# Altium integrated library Lattice CPLD ispMACH.IntLib: 663 symbols (part 23 of 48)
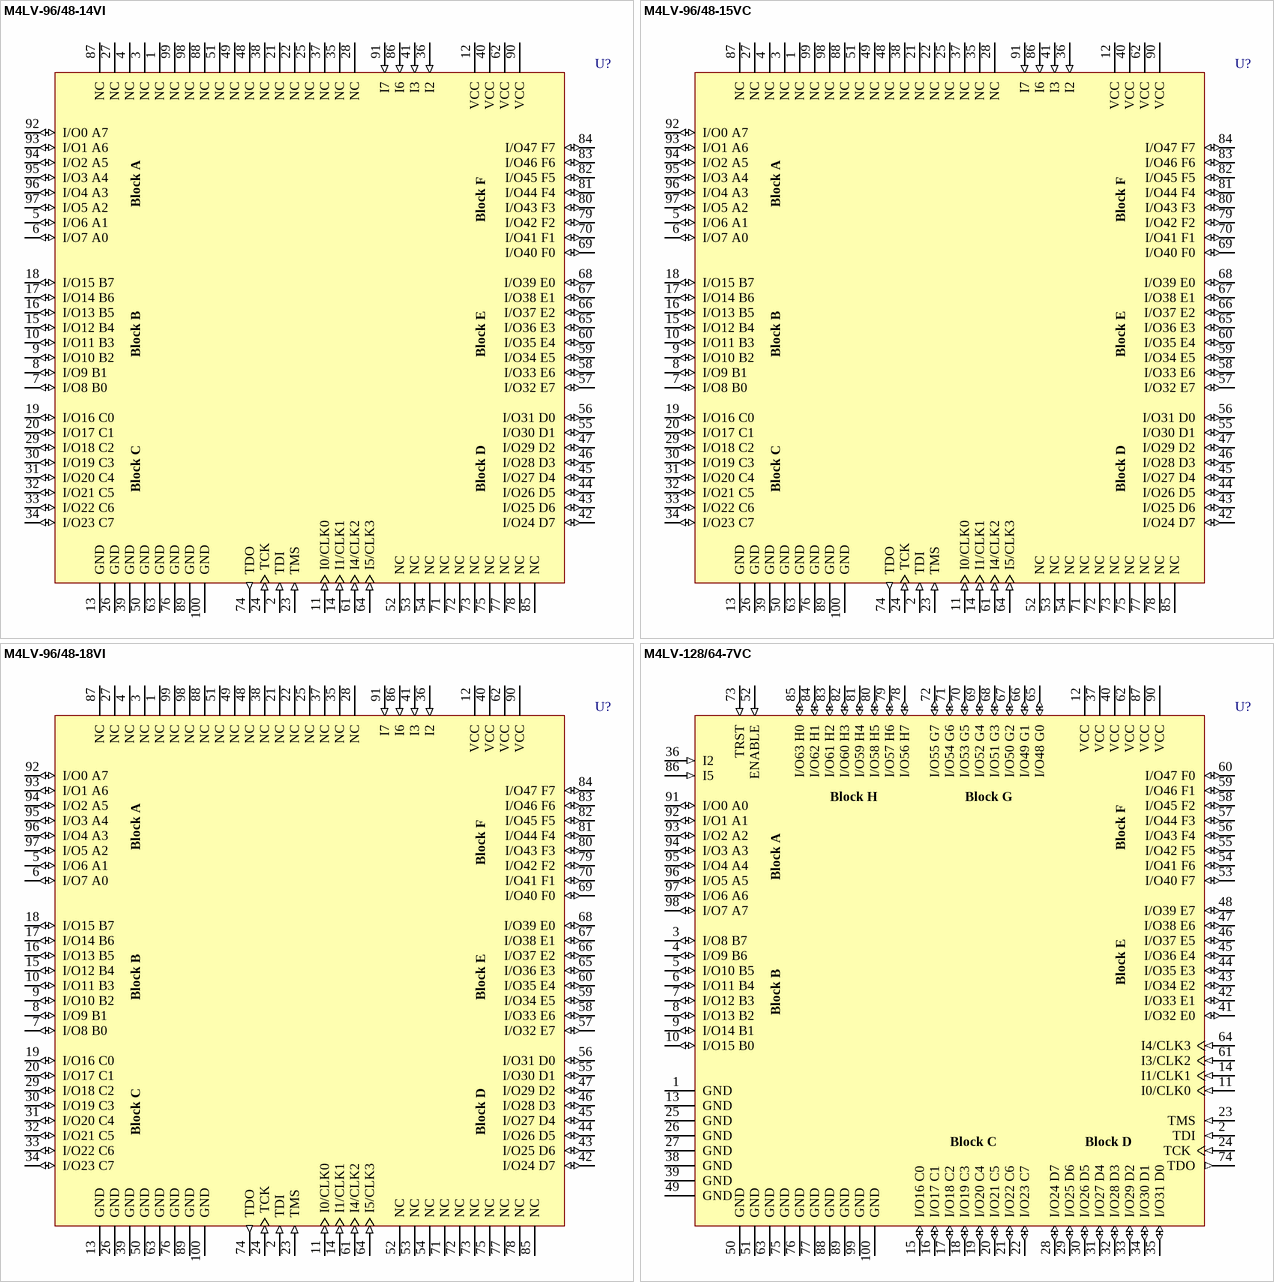
[diagram p328: symbols M4LV-96/48-14VI to M4LV-128/64-7VC]

## M4LV-96/48-14VI
designator U?
High-Performance EE CMOS In-System Programmable Logic; Published: 23-Sep-2002; LatestRevisionDate: 13-Apr-2006; LatestRevisionNote: IPC-7351 Footprint Added.; DatasheetVersion: Mar-2000; PackageVersion: pkg_32, Aug-2005; PackageReference: TQFP100; Publisher: Altium Limited; PackageDescription: 100-Pin Thin Quad Flat Pack (TQFP100); Code_JEDEC: MS-026-BED; ComponentLink1Description: Manufacturer Link; ComponentLink1URL: http://www.latticesemi.com/products/mature/index.cfm; ComponentLink2Description: Datasheet; ComponentLink2URL: http://www.latticesemi.com/lit/docs/datasheets/cpld/mach4.pdf
footprint TQFP100_N (Thin QFP, 100-Leads, Body 14x14mm, Pitch 0.5mm, IPC Medium Density)
footprint TQFP100_L (Thin QFP, 100-Leads, Body 14x14mm, Pitch 0.5mm, IPC High Density)
footprint TQFP100_M (Thin QFP, 100-Leads, Body 14x14mm, Pitch 0.5mm, IPC Low Density)
3D model M4LV-TQFP100 (100-Pin Thin Quad Flat Pack (TQFP100))
pins: 1 NC, 2 TDI (in), 3 NC, 4 NC, 5 I/O6 A1 (io), 6 I/O7 A0 (io), 7 I/O8 B0 (io), 8 I/O9 B1 (io), 9 I/O10 B2 (io), 10 I/O11 B3 (io), 11 I0/CLK0 (in), 12 VCC (power), 13 GND (power), 14 I1/CLK1 (in), 15 I/O12 B4 (io), 16 I/O13 B5 (io), 17 I/O14 B6 (io), 18 I/O15 B7 (io), 19 I/O16 C0 (io), 20 I/O17 C1 (io), 21 NC, 22 NC, 23 TMS (in), 24 TCK (in), 25 NC, 26 GND (power), 27 NC, 28 NC, 29 I/O18 C2 (io), 30 I/O19 C3 (io), 31 I/O20 C4 (io), 32 I/O21 C5 (io), 33 I/O22 C6 (io), 34 I/O23 C7 (io), 35 NC, 36 I2 (in), 37 NC, 38 NC, 39 GND (power), 40 VCC (power), 41 I3 (in), 42 I/O24 D7 (io), 43 I/O25 D6 (io), 44 I/O26 D5 (io), 45 I/O27 D4 (io), 46 I/O28 D3 (io), 47 I/O29 D2 (io), 48 NC, 49 NC, 50 GND (power), 51 NC, 52 NC, 53 NC, 54 NC, 55 I/O30 D1 (io), 56 I/O31 D0 (io), 57 I/O32 E7 (io), 58 I/O33 E6 (io), 59 I/O34 E5 (io), 60 I/O35 E4 (io), 61 I4/CLK2 (in), 62 VCC (power), 63 GND (power), 64 I5/CLK3 (in), 65 I/O36 E3 (io), 66 I/O37 E2 (io), 67 I/O38 E1 (io), 68 I/O39 E0 (io), 69 I/O40 F0 (io), 70 I/O41 F1 (io), 71 NC, 72 NC, 73 NC, 74 TDO (out), 75 NC, 76 GND (power), 77 NC, 78 NC, 79 I/O42 F2 (io), 80 I/O43 F3 (io), 81 I/O44 F4 (io), 82 I/O45 F5 (io), 83 I/O46 F6 (io), 84 I/O47 F7 (io), 85 NC, 86 I6 (in), 87 NC, 88 NC, 89 GND (power), 90 VCC (power), 91 I7 (in), 92 I/O0 A7 (io), 93 I/O1 A6 (io), 94 I/O2 A5 (io), 95 I/O3 A4 (io), 96 I/O4 A3 (io), 97 I/O5 A2 (io), 98 NC, 99 NC, 100 GND (power)
text: Block A; Block F; Block B; Block E; Block C; Block D

## M4LV-96/48-15VC
designator U?
High-Performance EE CMOS In-System Programmable Logic; Published: 23-Sep-2002; LatestRevisionDate: 13-Apr-2006; LatestRevisionNote: IPC-7351 Footprint Added.; DatasheetVersion: Mar-2000; PackageVersion: pkg_32, Aug-2005; PackageReference: TQFP100; Publisher: Altium Limited; PackageDescription: 100-Pin Thin Quad Flat Pack (TQFP100); Code_JEDEC: MS-026-BED; ComponentLink1Description: Manufacturer Link; ComponentLink1URL: http://www.latticesemi.com/products/mature/index.cfm; ComponentLink2Description: Datasheet; ComponentLink2URL: http://www.latticesemi.com/lit/docs/datasheets/cpld/mach4.pdf
footprint TQFP100_N (Thin QFP, 100-Leads, Body 14x14mm, Pitch 0.5mm, IPC Medium Density)
footprint TQFP100_L (Thin QFP, 100-Leads, Body 14x14mm, Pitch 0.5mm, IPC High Density)
footprint TQFP100_M (Thin QFP, 100-Leads, Body 14x14mm, Pitch 0.5mm, IPC Low Density)
3D model M4LV-TQFP100 (100-Pin Thin Quad Flat Pack (TQFP100))
pins: 1 NC, 2 TDI (in), 3 NC, 4 NC, 5 I/O6 A1 (io), 6 I/O7 A0 (io), 7 I/O8 B0 (io), 8 I/O9 B1 (io), 9 I/O10 B2 (io), 10 I/O11 B3 (io), 11 I0/CLK0 (in), 12 VCC (power), 13 GND (power), 14 I1/CLK1 (in), 15 I/O12 B4 (io), 16 I/O13 B5 (io), 17 I/O14 B6 (io), 18 I/O15 B7 (io), 19 I/O16 C0 (io), 20 I/O17 C1 (io), 21 NC, 22 NC, 23 TMS (in), 24 TCK (in), 25 NC, 26 GND (power), 27 NC, 28 NC, 29 I/O18 C2 (io), 30 I/O19 C3 (io), 31 I/O20 C4 (io), 32 I/O21 C5 (io), 33 I/O22 C6 (io), 34 I/O23 C7 (io), 35 NC, 36 I2 (in), 37 NC, 38 NC, 39 GND (power), 40 VCC (power), 41 I3 (in), 42 I/O24 D7 (io), 43 I/O25 D6 (io), 44 I/O26 D5 (io), 45 I/O27 D4 (io), 46 I/O28 D3 (io), 47 I/O29 D2 (io), 48 NC, 49 NC, 50 GND (power), 51 NC, 52 NC, 53 NC, 54 NC, 55 I/O30 D1 (io), 56 I/O31 D0 (io), 57 I/O32 E7 (io), 58 I/O33 E6 (io), 59 I/O34 E5 (io), 60 I/O35 E4 (io), 61 I4/CLK2 (in), 62 VCC (power), 63 GND (power), 64 I5/CLK3 (in), 65 I/O36 E3 (io), 66 I/O37 E2 (io), 67 I/O38 E1 (io), 68 I/O39 E0 (io), 69 I/O40 F0 (io), 70 I/O41 F1 (io), 71 NC, 72 NC, 73 NC, 74 TDO (out), 75 NC, 76 GND (power), 77 NC, 78 NC, 79 I/O42 F2 (io), 80 I/O43 F3 (io), 81 I/O44 F4 (io), 82 I/O45 F5 (io), 83 I/O46 F6 (io), 84 I/O47 F7 (io), 85 NC, 86 I6 (in), 87 NC, 88 NC, 89 GND (power), 90 VCC (power), 91 I7 (in), 92 I/O0 A7 (io), 93 I/O1 A6 (io), 94 I/O2 A5 (io), 95 I/O3 A4 (io), 96 I/O4 A3 (io), 97 I/O5 A2 (io), 98 NC, 99 NC, 100 GND (power)
text: Block A; Block F; Block B; Block E; Block C; Block D

## M4LV-96/48-18VI
designator U?
High-Performance EE CMOS In-System Programmable Logic; Published: 23-Sep-2002; LatestRevisionDate: 13-Apr-2006; LatestRevisionNote: IPC-7351 Footprint Added.; DatasheetVersion: Mar-2000; PackageVersion: pkg_32, Aug-2005; PackageReference: TQFP100; Publisher: Altium Limited; PackageDescription: 100-Pin Thin Quad Flat Pack (TQFP100); Code_JEDEC: MS-026-BED; ComponentLink1Description: Manufacturer Link; ComponentLink1URL: http://www.latticesemi.com/products/mature/index.cfm; ComponentLink2Description: Datasheet; ComponentLink2URL: http://www.latticesemi.com/lit/docs/datasheets/cpld/mach4.pdf
footprint TQFP100_N (Thin QFP, 100-Leads, Body 14x14mm, Pitch 0.5mm, IPC Medium Density)
footprint TQFP100_L (Thin QFP, 100-Leads, Body 14x14mm, Pitch 0.5mm, IPC High Density)
footprint TQFP100_M (Thin QFP, 100-Leads, Body 14x14mm, Pitch 0.5mm, IPC Low Density)
3D model M4LV-TQFP100 (100-Pin Thin Quad Flat Pack (TQFP100))
pins: 1 NC, 2 TDI (in), 3 NC, 4 NC, 5 I/O6 A1 (io), 6 I/O7 A0 (io), 7 I/O8 B0 (io), 8 I/O9 B1 (io), 9 I/O10 B2 (io), 10 I/O11 B3 (io), 11 I0/CLK0 (in), 12 VCC (power), 13 GND (power), 14 I1/CLK1 (in), 15 I/O12 B4 (io), 16 I/O13 B5 (io), 17 I/O14 B6 (io), 18 I/O15 B7 (io), 19 I/O16 C0 (io), 20 I/O17 C1 (io), 21 NC, 22 NC, 23 TMS (in), 24 TCK (in), 25 NC, 26 GND (power), 27 NC, 28 NC, 29 I/O18 C2 (io), 30 I/O19 C3 (io), 31 I/O20 C4 (io), 32 I/O21 C5 (io), 33 I/O22 C6 (io), 34 I/O23 C7 (io), 35 NC, 36 I2 (in), 37 NC, 38 NC, 39 GND (power), 40 VCC (power), 41 I3 (in), 42 I/O24 D7 (io), 43 I/O25 D6 (io), 44 I/O26 D5 (io), 45 I/O27 D4 (io), 46 I/O28 D3 (io), 47 I/O29 D2 (io), 48 NC, 49 NC, 50 GND (power), 51 NC, 52 NC, 53 NC, 54 NC, 55 I/O30 D1 (io), 56 I/O31 D0 (io), 57 I/O32 E7 (io), 58 I/O33 E6 (io), 59 I/O34 E5 (io), 60 I/O35 E4 (io), 61 I4/CLK2 (in), 62 VCC (power), 63 GND (power), 64 I5/CLK3 (in), 65 I/O36 E3 (io), 66 I/O37 E2 (io), 67 I/O38 E1 (io), 68 I/O39 E0 (io), 69 I/O40 F0 (io), 70 I/O41 F1 (io), 71 NC, 72 NC, 73 NC, 74 TDO (out), 75 NC, 76 GND (power), 77 NC, 78 NC, 79 I/O42 F2 (io), 80 I/O43 F3 (io), 81 I/O44 F4 (io), 82 I/O45 F5 (io), 83 I/O46 F6 (io), 84 I/O47 F7 (io), 85 NC, 86 I6 (in), 87 NC, 88 NC, 89 GND (power), 90 VCC (power), 91 I7 (in), 92 I/O0 A7 (io), 93 I/O1 A6 (io), 94 I/O2 A5 (io), 95 I/O3 A4 (io), 96 I/O4 A3 (io), 97 I/O5 A2 (io), 98 NC, 99 NC, 100 GND (power)
text: Block A; Block F; Block B; Block E; Block C; Block D

## M4LV-128/64-7VC
designator U?
High-Performance EE CMOS In-System Programmable Logic; Published: 23-Sep-2002; LatestRevisionDate: 13-Apr-2006; LatestRevisionNote: IPC-7351 Footprint Added.; DatasheetVersion: Mar-2000; PackageVersion: pkg_32, Aug-2005; PackageReference: TQFP100; Publisher: Altium Limited; PackageDescription: 100-Pin Thin Quad Flat Pack (TQFP100); Code_JEDEC: MS-026-BED; ComponentLink1Description: Manufacturer Link; ComponentLink1URL: http://www.latticesemi.com/products/mature/index.cfm; ComponentLink2Description: Datasheet; ComponentLink2URL: http://www.latticesemi.com/lit/docs/datasheets/cpld/mach4.pdf
footprint TQFP100_N (Thin QFP, 100-Leads, Body 14x14mm, Pitch 0.5mm, IPC Medium Density)
footprint TQFP100_L (Thin QFP, 100-Leads, Body 14x14mm, Pitch 0.5mm, IPC High Density)
footprint TQFP100_M (Thin QFP, 100-Leads, Body 14x14mm, Pitch 0.5mm, IPC Low Density)
3D model M4LV-TQFP100 (100-Pin Thin Quad Flat Pack (TQFP100))
pins: 1 GND (power), 2 TDI (in), 3 I/O8 B7 (io), 4 I/O9 B6 (io), 5 I/O10 B5 (io), 6 I/O11 B4 (io), 7 I/O12 B3 (io), 8 I/O13 B2 (io), 9 I/O14 B1 (io), 10 I/O15 B0 (io), 11 I0/CLK0 (in), 12 VCC (power), 13 GND (power), 14 I1/CLK1 (in), 15 I/O16 C0 (io), 16 I/O17 C1 (io), 17 I/O18 C2 (io), 18 I/O19 C3 (io), 19 I/O20 C4 (io), 20 I/O21 C5 (io), 21 I/O22 C6 (io), 22 I/O23 C7 (io), 23 TMS (in), 24 TCK (in), 25 GND (power), 26 GND (power), 27 GND (power), 28 I/O24 D7 (io), 29 I/O25 D6 (io), 30 I/O26 D5 (io), 31 I/O27 D4 (io), 32 I/O28 D3 (io), 33 I/O29 D2 (io), 34 I/O30 D1 (io), 35 I/O31 D0 (io), 36 I2 (in), 37 VCC (power), 38 GND (power), 39 GND (power), 40 VCC (power), 41 I/O32 E0 (io), 42 I/O33 E1 (io), 43 I/O34 E2 (io), 44 I/O35 E3 (io), 45 I/O36 E4 (io), 46 I/O37 E5 (io), 47 I/O38 E6 (io), 48 I/O39 E7 (io), 49 GND (power), 50 GND (power), 51 GND (power), 52 ENABLE (in), 53 I/O40 F7 (io), 54 I/O41 F6 (io), 55 I/O42 F5 (io), 56 I/O43 F4 (io), 57 I/O44 F3 (io), 58 I/O45 F2 (io), 59 I/O46 F1 (io), 60 I/O47 F0 (io), 61 I3/CLK2 (in), 62 VCC (power), 63 GND (power), 64 I4/CLK3 (in), 65 I/O48 G0 (io), 66 I/O49 G1 (io), 67 I/O50 G2 (io), 68 I/O51 G3 (io), 69 I/O52 G4 (io), 70 I/O53 G5 (io), 71 I/O54 G6 (io), 72 I/O55 G7 (io), 73 TRST (in), 74 TDO (out), 75 GND (power), 76 GND (power), 77 GND (power), 78 I/O56 H7 (io), 79 I/O57 H6 (io), 80 I/O58 H5 (io), 81 I/O59 H4 (io), 82 I/O60 H3 (io), 83 I/O61 H2 (io), 84 I/O62 H1 (io), 85 I/O63 H0 (io), 86 I5 (in), 87 VCC (power), 88 GND (power), 89 GND (power), 90 VCC (power), 91 I/O0 A0 (io), 92 I/O1 A1 (io), 93 I/O2 A2 (io), 94 I/O3 A3 (io), 95 I/O4 A4 (io), 96 I/O5 A5 (io), 97 I/O6 A6 (io), 98 I/O7 A7 (io), 99 GND (power), 100 GND (power)
text: Block H; Block G; Block F; Block A; Block E; Block B; Block C; Block D

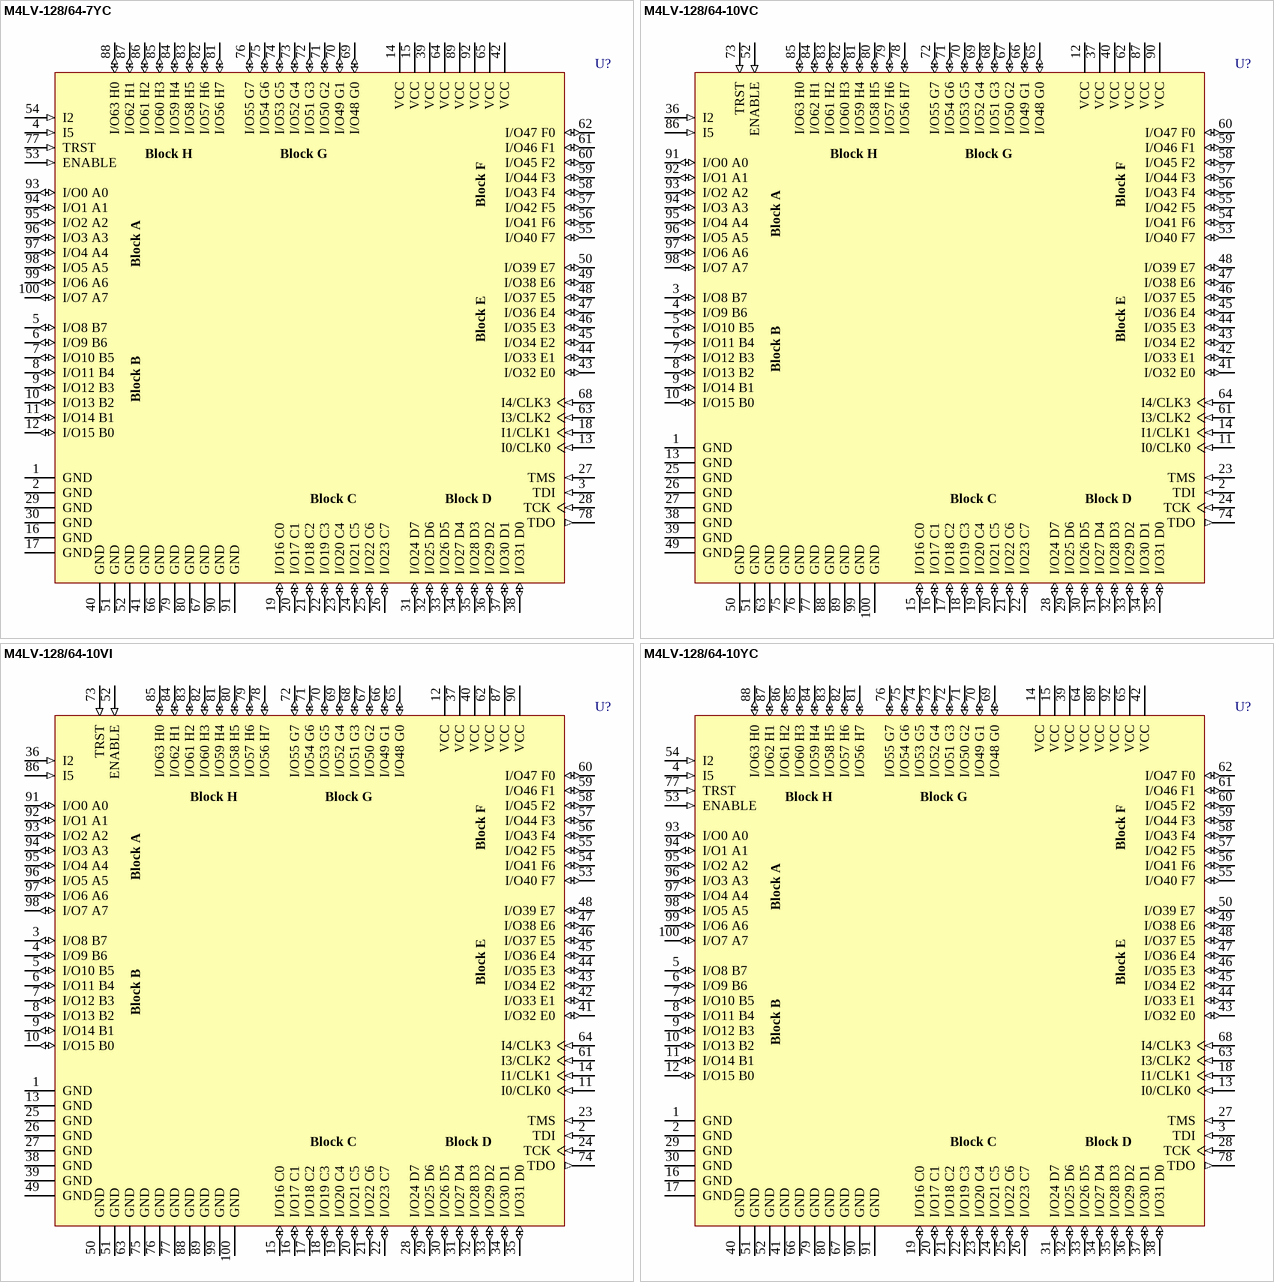
[diagram p137: symbols M4LV-128/64-7YC to M4LV-128/64-10YC]

## M4LV-128/64-7YC
designator U?
High-Performance EE CMOS In-System Programmable Logic; Published: 23-Sep-2002; LatestRevisionDate: 13-Apr-2006; LatestRevisionNote: IPC-7351 Footprint Added.; DatasheetVersion: Mar-2000; PackageVersion: pkg_32, Aug-2005; PackageReference: PQFP100; Publisher: Altium Limited; PackageDescription: 100-Pin Quad Flat Pack Rectangular 0.65 mm Pitch; Code_IPC: QFP65P1720X2320-100; ComponentLink1Description: Manufacturer Link; ComponentLink1URL: http://www.latticesemi.com/products/mature/index.cfm; ComponentLink2Description: Datasheet; ComponentLink2URL: http://www.latticesemi.com/lit/docs/datasheets/cpld/mach4.pdf
footprint PQFP100_N (QFP, 100-Leads, Body 20x14mm, Pitch 0.65mm, IPC Medium Density)
footprint PQFP100_L (QFP, 100-Leads, Body 20x14mm, Pitch 0.65mm, IPC High Density)
footprint PQFP100_M (QFP, 100-Leads, Body 20x14mm, Pitch 0.65mm, IPC Low Density)
3D model PQFP-100 (100-Pin Quad Flat Pack Rectangular 0.65 mm Pitch)
pins: 1 GND (power), 2 GND (power), 3 TDI (in), 4 I5 (in), 5 I/O8 B7 (io), 6 I/O9 B6 (io), 7 I/O10 B5 (io), 8 I/O11 B4 (io), 9 I/O12 B3 (io), 10 I/O13 B2 (io), 11 I/O14 B1 (io), 12 I/O15 B0 (io), 13 I0/CLK0 (in), 14 VCC (power), 15 VCC (power), 16 GND (power), 17 GND (power), 18 I1/CLK1 (in), 19 I/O16 C0 (io), 20 I/O17 C1 (io), 21 I/O18 C2 (io), 22 I/O19 C3 (io), 23 I/O20 C4 (io), 24 I/O21 C5 (io), 25 I/O22 C6 (io), 26 I/O23 C7 (io), 27 TMS (in), 28 TCK (in), 29 GND (power), 30 GND (power), 31 I/O24 D7 (io), 32 I/O25 D6 (io), 33 I/O26 D5 (io), 34 I/O27 D4 (io), 35 I/O28 D3 (io), 36 I/O29 D2 (io), 37 I/O30 D1 (io), 38 I/O31 D0 (io), 39 VCC (power), 40 GND (power), 41 GND (power), 42 VCC (power), 43 I/O32 E0 (io), 44 I/O33 E1 (io), 45 I/O34 E2 (io), 46 I/O35 E3 (io), 47 I/O36 E4 (io), 48 I/O37 E5 (io), 49 I/O38 E6 (io), 50 I/O39 E7 (io), 51 GND (power), 52 GND (power), 53 ENABLE (in), 54 I2 (in), 55 I/O40 F7 (io), 56 I/O41 F6 (io), 57 I/O42 F5 (io), 58 I/O43 F4 (io), 59 I/O44 F3 (io), 60 I/O45 F2 (io), 61 I/O46 F1 (io), 62 I/O47 F0 (io), 63 I3/CLK2 (in), 64 VCC (power), 65 VCC (power), 66 GND (power), 67 GND (power), 68 I4/CLK3 (in), 69 I/O48 G0 (io), 70 I/O49 G1 (io), 71 I/O50 G2 (io), 72 I/O51 G3 (io), 73 I/O52 G4 (io), 74 I/O53 G5 (io), 75 I/O54 G6 (io), 76 I/O55 G7 (io), 77 TRST (in), 78 TDO (out), 79 GND (power), 80 GND (power), 81 I/O56 H7 (io), 82 I/O57 H6 (io), 83 I/O58 H5 (io), 84 I/O59 H4 (io), 85 I/O60 H3 (io), 86 I/O61 H2 (io), 87 I/O62 H1 (io), 88 I/O63 H0 (io), 89 VCC (power), 90 GND (power), 91 GND (power), 92 VCC (power), 93 I/O0 A0 (io), 94 I/O1 A1 (io), 95 I/O2 A2 (io), 96 I/O3 A3 (io), 97 I/O4 A4 (io), 98 I/O5 A5 (io), 99 I/O6 A6 (io), 100 I/O7 A7 (io)
text: Block H; Block G; Block F; Block A; Block E; Block B; Block C; Block D

## M4LV-128/64-10VC
designator U?
High-Performance EE CMOS In-System Programmable Logic; Published: 23-Sep-2002; LatestRevisionDate: 13-Apr-2006; LatestRevisionNote: IPC-7351 Footprint Added.; DatasheetVersion: Mar-2000; PackageVersion: pkg_32, Aug-2005; PackageReference: TQFP100; Publisher: Altium Limited; PackageDescription: 100-Pin Thin Quad Flat Pack (TQFP100); Code_JEDEC: MS-026-BED; ComponentLink1Description: Manufacturer Link; ComponentLink1URL: http://www.latticesemi.com/products/mature/index.cfm; ComponentLink2Description: Datasheet; ComponentLink2URL: http://www.latticesemi.com/lit/docs/datasheets/cpld/mach4.pdf
footprint TQFP100_N (Thin QFP, 100-Leads, Body 14x14mm, Pitch 0.5mm, IPC Medium Density)
footprint TQFP100_L (Thin QFP, 100-Leads, Body 14x14mm, Pitch 0.5mm, IPC High Density)
footprint TQFP100_M (Thin QFP, 100-Leads, Body 14x14mm, Pitch 0.5mm, IPC Low Density)
3D model M4LV-TQFP100 (100-Pin Thin Quad Flat Pack (TQFP100))
pins: 1 GND (power), 2 TDI (in), 3 I/O8 B7 (io), 4 I/O9 B6 (io), 5 I/O10 B5 (io), 6 I/O11 B4 (io), 7 I/O12 B3 (io), 8 I/O13 B2 (io), 9 I/O14 B1 (io), 10 I/O15 B0 (io), 11 I0/CLK0 (in), 12 VCC (power), 13 GND (power), 14 I1/CLK1 (in), 15 I/O16 C0 (io), 16 I/O17 C1 (io), 17 I/O18 C2 (io), 18 I/O19 C3 (io), 19 I/O20 C4 (io), 20 I/O21 C5 (io), 21 I/O22 C6 (io), 22 I/O23 C7 (io), 23 TMS (in), 24 TCK (in), 25 GND (power), 26 GND (power), 27 GND (power), 28 I/O24 D7 (io), 29 I/O25 D6 (io), 30 I/O26 D5 (io), 31 I/O27 D4 (io), 32 I/O28 D3 (io), 33 I/O29 D2 (io), 34 I/O30 D1 (io), 35 I/O31 D0 (io), 36 I2 (in), 37 VCC (power), 38 GND (power), 39 GND (power), 40 VCC (power), 41 I/O32 E0 (io), 42 I/O33 E1 (io), 43 I/O34 E2 (io), 44 I/O35 E3 (io), 45 I/O36 E4 (io), 46 I/O37 E5 (io), 47 I/O38 E6 (io), 48 I/O39 E7 (io), 49 GND (power), 50 GND (power), 51 GND (power), 52 ENABLE (in), 53 I/O40 F7 (io), 54 I/O41 F6 (io), 55 I/O42 F5 (io), 56 I/O43 F4 (io), 57 I/O44 F3 (io), 58 I/O45 F2 (io), 59 I/O46 F1 (io), 60 I/O47 F0 (io), 61 I3/CLK2 (in), 62 VCC (power), 63 GND (power), 64 I4/CLK3 (in), 65 I/O48 G0 (io), 66 I/O49 G1 (io), 67 I/O50 G2 (io), 68 I/O51 G3 (io), 69 I/O52 G4 (io), 70 I/O53 G5 (io), 71 I/O54 G6 (io), 72 I/O55 G7 (io), 73 TRST (in), 74 TDO (out), 75 GND (power), 76 GND (power), 77 GND (power), 78 I/O56 H7 (io), 79 I/O57 H6 (io), 80 I/O58 H5 (io), 81 I/O59 H4 (io), 82 I/O60 H3 (io), 83 I/O61 H2 (io), 84 I/O62 H1 (io), 85 I/O63 H0 (io), 86 I5 (in), 87 VCC (power), 88 GND (power), 89 GND (power), 90 VCC (power), 91 I/O0 A0 (io), 92 I/O1 A1 (io), 93 I/O2 A2 (io), 94 I/O3 A3 (io), 95 I/O4 A4 (io), 96 I/O5 A5 (io), 97 I/O6 A6 (io), 98 I/O7 A7 (io), 99 GND (power), 100 GND (power)
text: Block H; Block G; Block F; Block A; Block E; Block B; Block C; Block D

## M4LV-128/64-10VI
designator U?
High-Performance EE CMOS In-System Programmable Logic; Published: 23-Sep-2002; LatestRevisionDate: 13-Apr-2006; LatestRevisionNote: IPC-7351 Footprint Added.; DatasheetVersion: Mar-2000; PackageVersion: pkg_32, Aug-2005; PackageReference: TQFP100; Publisher: Altium Limited; PackageDescription: 100-Pin Thin Quad Flat Pack (TQFP100); Code_JEDEC: MS-026-BED; ComponentLink1Description: Manufacturer Link; ComponentLink1URL: http://www.latticesemi.com/products/mature/index.cfm; ComponentLink2Description: Datasheet; ComponentLink2URL: http://www.latticesemi.com/lit/docs/datasheets/cpld/mach4.pdf
footprint TQFP100_N (Thin QFP, 100-Leads, Body 14x14mm, Pitch 0.5mm, IPC Medium Density)
footprint TQFP100_L (Thin QFP, 100-Leads, Body 14x14mm, Pitch 0.5mm, IPC High Density)
footprint TQFP100_M (Thin QFP, 100-Leads, Body 14x14mm, Pitch 0.5mm, IPC Low Density)
3D model M4LV-TQFP100 (100-Pin Thin Quad Flat Pack (TQFP100))
pins: 1 GND (power), 2 TDI (in), 3 I/O8 B7 (io), 4 I/O9 B6 (io), 5 I/O10 B5 (io), 6 I/O11 B4 (io), 7 I/O12 B3 (io), 8 I/O13 B2 (io), 9 I/O14 B1 (io), 10 I/O15 B0 (io), 11 I0/CLK0 (in), 12 VCC (power), 13 GND (power), 14 I1/CLK1 (in), 15 I/O16 C0 (io), 16 I/O17 C1 (io), 17 I/O18 C2 (io), 18 I/O19 C3 (io), 19 I/O20 C4 (io), 20 I/O21 C5 (io), 21 I/O22 C6 (io), 22 I/O23 C7 (io), 23 TMS (in), 24 TCK (in), 25 GND (power), 26 GND (power), 27 GND (power), 28 I/O24 D7 (io), 29 I/O25 D6 (io), 30 I/O26 D5 (io), 31 I/O27 D4 (io), 32 I/O28 D3 (io), 33 I/O29 D2 (io), 34 I/O30 D1 (io), 35 I/O31 D0 (io), 36 I2 (in), 37 VCC (power), 38 GND (power), 39 GND (power), 40 VCC (power), 41 I/O32 E0 (io), 42 I/O33 E1 (io), 43 I/O34 E2 (io), 44 I/O35 E3 (io), 45 I/O36 E4 (io), 46 I/O37 E5 (io), 47 I/O38 E6 (io), 48 I/O39 E7 (io), 49 GND (power), 50 GND (power), 51 GND (power), 52 ENABLE (in), 53 I/O40 F7 (io), 54 I/O41 F6 (io), 55 I/O42 F5 (io), 56 I/O43 F4 (io), 57 I/O44 F3 (io), 58 I/O45 F2 (io), 59 I/O46 F1 (io), 60 I/O47 F0 (io), 61 I3/CLK2 (in), 62 VCC (power), 63 GND (power), 64 I4/CLK3 (in), 65 I/O48 G0 (io), 66 I/O49 G1 (io), 67 I/O50 G2 (io), 68 I/O51 G3 (io), 69 I/O52 G4 (io), 70 I/O53 G5 (io), 71 I/O54 G6 (io), 72 I/O55 G7 (io), 73 TRST (in), 74 TDO (out), 75 GND (power), 76 GND (power), 77 GND (power), 78 I/O56 H7 (io), 79 I/O57 H6 (io), 80 I/O58 H5 (io), 81 I/O59 H4 (io), 82 I/O60 H3 (io), 83 I/O61 H2 (io), 84 I/O62 H1 (io), 85 I/O63 H0 (io), 86 I5 (in), 87 VCC (power), 88 GND (power), 89 GND (power), 90 VCC (power), 91 I/O0 A0 (io), 92 I/O1 A1 (io), 93 I/O2 A2 (io), 94 I/O3 A3 (io), 95 I/O4 A4 (io), 96 I/O5 A5 (io), 97 I/O6 A6 (io), 98 I/O7 A7 (io), 99 GND (power), 100 GND (power)
text: Block H; Block G; Block F; Block A; Block E; Block B; Block C; Block D

## M4LV-128/64-10YC
designator U?
High-Performance EE CMOS In-System Programmable Logic; Published: 23-Sep-2002; LatestRevisionDate: 13-Apr-2006; LatestRevisionNote: IPC-7351 Footprint Added.; DatasheetVersion: Mar-2000; PackageVersion: pkg_32, Aug-2005; PackageReference: PQFP100; Publisher: Altium Limited; PackageDescription: 100-Pin Quad Flat Pack Rectangular 0.65 mm Pitch; Code_IPC: QFP65P1720X2320-100; ComponentLink1Description: Manufacturer Link; ComponentLink1URL: http://www.latticesemi.com/products/mature/index.cfm; ComponentLink2Description: Datasheet; ComponentLink2URL: http://www.latticesemi.com/lit/docs/datasheets/cpld/mach4.pdf
footprint PQFP100_N (QFP, 100-Leads, Body 20x14mm, Pitch 0.65mm, IPC Medium Density)
footprint PQFP100_L (QFP, 100-Leads, Body 20x14mm, Pitch 0.65mm, IPC High Density)
footprint PQFP100_M (QFP, 100-Leads, Body 20x14mm, Pitch 0.65mm, IPC Low Density)
3D model PQFP-100 (100-Pin Quad Flat Pack Rectangular 0.65 mm Pitch)
pins: 1 GND (power), 2 GND (power), 3 TDI (in), 4 I5 (in), 5 I/O8 B7 (io), 6 I/O9 B6 (io), 7 I/O10 B5 (io), 8 I/O11 B4 (io), 9 I/O12 B3 (io), 10 I/O13 B2 (io), 11 I/O14 B1 (io), 12 I/O15 B0 (io), 13 I0/CLK0 (in), 14 VCC (power), 15 VCC (power), 16 GND (power), 17 GND (power), 18 I1/CLK1 (in), 19 I/O16 C0 (io), 20 I/O17 C1 (io), 21 I/O18 C2 (io), 22 I/O19 C3 (io), 23 I/O20 C4 (io), 24 I/O21 C5 (io), 25 I/O22 C6 (io), 26 I/O23 C7 (io), 27 TMS (in), 28 TCK (in), 29 GND (power), 30 GND (power), 31 I/O24 D7 (io), 32 I/O25 D6 (io), 33 I/O26 D5 (io), 34 I/O27 D4 (io), 35 I/O28 D3 (io), 36 I/O29 D2 (io), 37 I/O30 D1 (io), 38 I/O31 D0 (io), 39 VCC (power), 40 GND (power), 41 GND (power), 42 VCC (power), 43 I/O32 E0 (io), 44 I/O33 E1 (io), 45 I/O34 E2 (io), 46 I/O35 E3 (io), 47 I/O36 E4 (io), 48 I/O37 E5 (io), 49 I/O38 E6 (io), 50 I/O39 E7 (io), 51 GND (power), 52 GND (power), 53 ENABLE (in), 54 I2 (in), 55 I/O40 F7 (io), 56 I/O41 F6 (io), 57 I/O42 F5 (io), 58 I/O43 F4 (io), 59 I/O44 F3 (io), 60 I/O45 F2 (io), 61 I/O46 F1 (io), 62 I/O47 F0 (io), 63 I3/CLK2 (in), 64 VCC (power), 65 VCC (power), 66 GND (power), 67 GND (power), 68 I4/CLK3 (in), 69 I/O48 G0 (io), 70 I/O49 G1 (io), 71 I/O50 G2 (io), 72 I/O51 G3 (io), 73 I/O52 G4 (io), 74 I/O53 G5 (io), 75 I/O54 G6 (io), 76 I/O55 G7 (io), 77 TRST (in), 78 TDO (out), 79 GND (power), 80 GND (power), 81 I/O56 H7 (io), 82 I/O57 H6 (io), 83 I/O58 H5 (io), 84 I/O59 H4 (io), 85 I/O60 H3 (io), 86 I/O61 H2 (io), 87 I/O62 H1 (io), 88 I/O63 H0 (io), 89 VCC (power), 90 GND (power), 91 GND (power), 92 VCC (power), 93 I/O0 A0 (io), 94 I/O1 A1 (io), 95 I/O2 A2 (io), 96 I/O3 A3 (io), 97 I/O4 A4 (io), 98 I/O5 A5 (io), 99 I/O6 A6 (io), 100 I/O7 A7 (io)
text: Block H; Block G; Block F; Block A; Block E; Block B; Block C; Block D

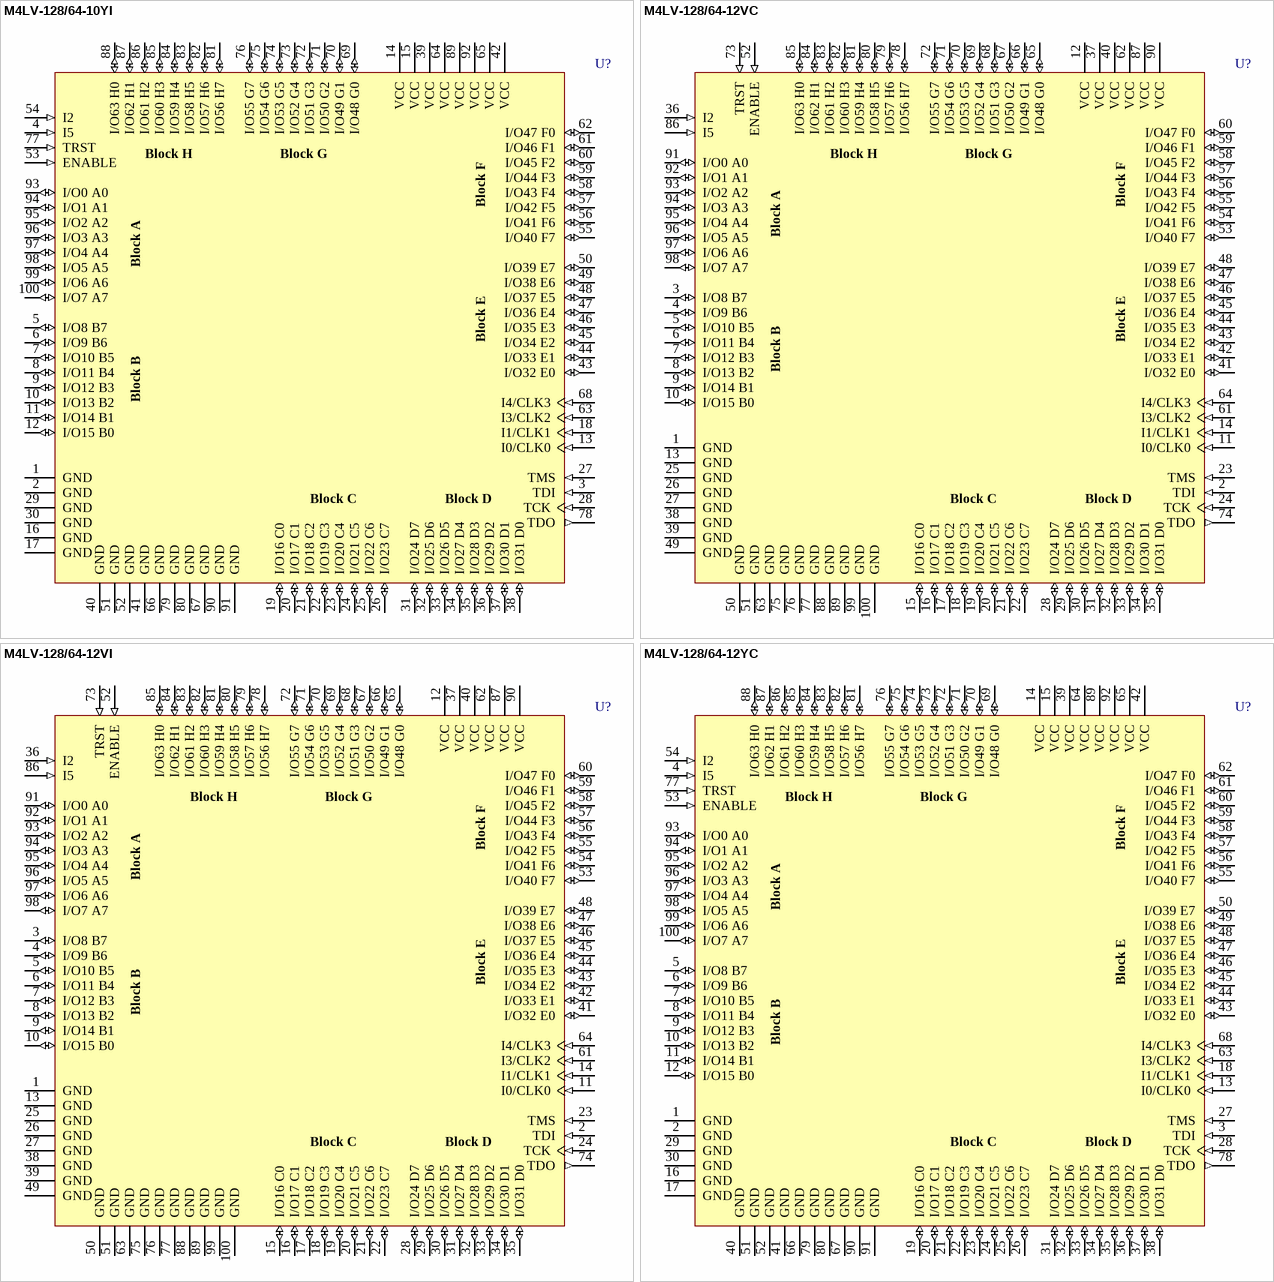
[diagram p138: symbols M4LV-128/64-10YI to M4LV-128/64-12YC]

## M4LV-128/64-10YI
designator U?
High-Performance EE CMOS In-System Programmable Logic; Published: 23-Sep-2002; LatestRevisionDate: 13-Apr-2006; LatestRevisionNote: IPC-7351 Footprint Added.; DatasheetVersion: Mar-2000; PackageVersion: pkg_32, Aug-2005; PackageReference: PQFP100; Publisher: Altium Limited; PackageDescription: 100-Pin Quad Flat Pack Rectangular 0.65 mm Pitch; Code_IPC: QFP65P1720X2320-100; ComponentLink1Description: Manufacturer Link; ComponentLink1URL: http://www.latticesemi.com/products/mature/index.cfm; ComponentLink2Description: Datasheet; ComponentLink2URL: http://www.latticesemi.com/lit/docs/datasheets/cpld/mach4.pdf
footprint PQFP100_N (QFP, 100-Leads, Body 20x14mm, Pitch 0.65mm, IPC Medium Density)
footprint PQFP100_L (QFP, 100-Leads, Body 20x14mm, Pitch 0.65mm, IPC High Density)
footprint PQFP100_M (QFP, 100-Leads, Body 20x14mm, Pitch 0.65mm, IPC Low Density)
3D model PQFP-100 (100-Pin Quad Flat Pack Rectangular 0.65 mm Pitch)
pins: 1 GND (power), 2 GND (power), 3 TDI (in), 4 I5 (in), 5 I/O8 B7 (io), 6 I/O9 B6 (io), 7 I/O10 B5 (io), 8 I/O11 B4 (io), 9 I/O12 B3 (io), 10 I/O13 B2 (io), 11 I/O14 B1 (io), 12 I/O15 B0 (io), 13 I0/CLK0 (in), 14 VCC (power), 15 VCC (power), 16 GND (power), 17 GND (power), 18 I1/CLK1 (in), 19 I/O16 C0 (io), 20 I/O17 C1 (io), 21 I/O18 C2 (io), 22 I/O19 C3 (io), 23 I/O20 C4 (io), 24 I/O21 C5 (io), 25 I/O22 C6 (io), 26 I/O23 C7 (io), 27 TMS (in), 28 TCK (in), 29 GND (power), 30 GND (power), 31 I/O24 D7 (io), 32 I/O25 D6 (io), 33 I/O26 D5 (io), 34 I/O27 D4 (io), 35 I/O28 D3 (io), 36 I/O29 D2 (io), 37 I/O30 D1 (io), 38 I/O31 D0 (io), 39 VCC (power), 40 GND (power), 41 GND (power), 42 VCC (power), 43 I/O32 E0 (io), 44 I/O33 E1 (io), 45 I/O34 E2 (io), 46 I/O35 E3 (io), 47 I/O36 E4 (io), 48 I/O37 E5 (io), 49 I/O38 E6 (io), 50 I/O39 E7 (io), 51 GND (power), 52 GND (power), 53 ENABLE (in), 54 I2 (in), 55 I/O40 F7 (io), 56 I/O41 F6 (io), 57 I/O42 F5 (io), 58 I/O43 F4 (io), 59 I/O44 F3 (io), 60 I/O45 F2 (io), 61 I/O46 F1 (io), 62 I/O47 F0 (io), 63 I3/CLK2 (in), 64 VCC (power), 65 VCC (power), 66 GND (power), 67 GND (power), 68 I4/CLK3 (in), 69 I/O48 G0 (io), 70 I/O49 G1 (io), 71 I/O50 G2 (io), 72 I/O51 G3 (io), 73 I/O52 G4 (io), 74 I/O53 G5 (io), 75 I/O54 G6 (io), 76 I/O55 G7 (io), 77 TRST (in), 78 TDO (out), 79 GND (power), 80 GND (power), 81 I/O56 H7 (io), 82 I/O57 H6 (io), 83 I/O58 H5 (io), 84 I/O59 H4 (io), 85 I/O60 H3 (io), 86 I/O61 H2 (io), 87 I/O62 H1 (io), 88 I/O63 H0 (io), 89 VCC (power), 90 GND (power), 91 GND (power), 92 VCC (power), 93 I/O0 A0 (io), 94 I/O1 A1 (io), 95 I/O2 A2 (io), 96 I/O3 A3 (io), 97 I/O4 A4 (io), 98 I/O5 A5 (io), 99 I/O6 A6 (io), 100 I/O7 A7 (io)
text: Block H; Block G; Block F; Block A; Block E; Block B; Block C; Block D

## M4LV-128/64-12VC
designator U?
High-Performance EE CMOS In-System Programmable Logic; Published: 23-Sep-2002; LatestRevisionDate: 13-Apr-2006; LatestRevisionNote: IPC-7351 Footprint Added.; DatasheetVersion: Mar-2000; PackageVersion: pkg_32, Aug-2005; PackageReference: TQFP100; Publisher: Altium Limited; PackageDescription: 100-Pin Thin Quad Flat Pack (TQFP100); Code_JEDEC: MS-026-BED; ComponentLink1Description: Manufacturer Link; ComponentLink1URL: http://www.latticesemi.com/products/mature/index.cfm; ComponentLink2Description: Datasheet; ComponentLink2URL: http://www.latticesemi.com/lit/docs/datasheets/cpld/mach4.pdf
footprint TQFP100_N (Thin QFP, 100-Leads, Body 14x14mm, Pitch 0.5mm, IPC Medium Density)
footprint TQFP100_L (Thin QFP, 100-Leads, Body 14x14mm, Pitch 0.5mm, IPC High Density)
footprint TQFP100_M (Thin QFP, 100-Leads, Body 14x14mm, Pitch 0.5mm, IPC Low Density)
3D model M4LV-TQFP100 (100-Pin Thin Quad Flat Pack (TQFP100))
pins: 1 GND (power), 2 TDI (in), 3 I/O8 B7 (io), 4 I/O9 B6 (io), 5 I/O10 B5 (io), 6 I/O11 B4 (io), 7 I/O12 B3 (io), 8 I/O13 B2 (io), 9 I/O14 B1 (io), 10 I/O15 B0 (io), 11 I0/CLK0 (in), 12 VCC (power), 13 GND (power), 14 I1/CLK1 (in), 15 I/O16 C0 (io), 16 I/O17 C1 (io), 17 I/O18 C2 (io), 18 I/O19 C3 (io), 19 I/O20 C4 (io), 20 I/O21 C5 (io), 21 I/O22 C6 (io), 22 I/O23 C7 (io), 23 TMS (in), 24 TCK (in), 25 GND (power), 26 GND (power), 27 GND (power), 28 I/O24 D7 (io), 29 I/O25 D6 (io), 30 I/O26 D5 (io), 31 I/O27 D4 (io), 32 I/O28 D3 (io), 33 I/O29 D2 (io), 34 I/O30 D1 (io), 35 I/O31 D0 (io), 36 I2 (in), 37 VCC (power), 38 GND (power), 39 GND (power), 40 VCC (power), 41 I/O32 E0 (io), 42 I/O33 E1 (io), 43 I/O34 E2 (io), 44 I/O35 E3 (io), 45 I/O36 E4 (io), 46 I/O37 E5 (io), 47 I/O38 E6 (io), 48 I/O39 E7 (io), 49 GND (power), 50 GND (power), 51 GND (power), 52 ENABLE (in), 53 I/O40 F7 (io), 54 I/O41 F6 (io), 55 I/O42 F5 (io), 56 I/O43 F4 (io), 57 I/O44 F3 (io), 58 I/O45 F2 (io), 59 I/O46 F1 (io), 60 I/O47 F0 (io), 61 I3/CLK2 (in), 62 VCC (power), 63 GND (power), 64 I4/CLK3 (in), 65 I/O48 G0 (io), 66 I/O49 G1 (io), 67 I/O50 G2 (io), 68 I/O51 G3 (io), 69 I/O52 G4 (io), 70 I/O53 G5 (io), 71 I/O54 G6 (io), 72 I/O55 G7 (io), 73 TRST (in), 74 TDO (out), 75 GND (power), 76 GND (power), 77 GND (power), 78 I/O56 H7 (io), 79 I/O57 H6 (io), 80 I/O58 H5 (io), 81 I/O59 H4 (io), 82 I/O60 H3 (io), 83 I/O61 H2 (io), 84 I/O62 H1 (io), 85 I/O63 H0 (io), 86 I5 (in), 87 VCC (power), 88 GND (power), 89 GND (power), 90 VCC (power), 91 I/O0 A0 (io), 92 I/O1 A1 (io), 93 I/O2 A2 (io), 94 I/O3 A3 (io), 95 I/O4 A4 (io), 96 I/O5 A5 (io), 97 I/O6 A6 (io), 98 I/O7 A7 (io), 99 GND (power), 100 GND (power)
text: Block H; Block G; Block F; Block A; Block E; Block B; Block C; Block D

## M4LV-128/64-12VI
designator U?
High-Performance EE CMOS In-System Programmable Logic; Published: 23-Sep-2002; LatestRevisionDate: 13-Apr-2006; LatestRevisionNote: IPC-7351 Footprint Added.; DatasheetVersion: Mar-2000; PackageVersion: pkg_32, Aug-2005; PackageReference: TQFP100; Publisher: Altium Limited; PackageDescription: 100-Pin Thin Quad Flat Pack (TQFP100); Code_JEDEC: MS-026-BED; ComponentLink1Description: Manufacturer Link; ComponentLink1URL: http://www.latticesemi.com/products/mature/index.cfm; ComponentLink2Description: Datasheet; ComponentLink2URL: http://www.latticesemi.com/lit/docs/datasheets/cpld/mach4.pdf
footprint TQFP100_N (Thin QFP, 100-Leads, Body 14x14mm, Pitch 0.5mm, IPC Medium Density)
footprint TQFP100_L (Thin QFP, 100-Leads, Body 14x14mm, Pitch 0.5mm, IPC High Density)
footprint TQFP100_M (Thin QFP, 100-Leads, Body 14x14mm, Pitch 0.5mm, IPC Low Density)
3D model M4LV-TQFP100 (100-Pin Thin Quad Flat Pack (TQFP100))
pins: 1 GND (power), 2 TDI (in), 3 I/O8 B7 (io), 4 I/O9 B6 (io), 5 I/O10 B5 (io), 6 I/O11 B4 (io), 7 I/O12 B3 (io), 8 I/O13 B2 (io), 9 I/O14 B1 (io), 10 I/O15 B0 (io), 11 I0/CLK0 (in), 12 VCC (power), 13 GND (power), 14 I1/CLK1 (in), 15 I/O16 C0 (io), 16 I/O17 C1 (io), 17 I/O18 C2 (io), 18 I/O19 C3 (io), 19 I/O20 C4 (io), 20 I/O21 C5 (io), 21 I/O22 C6 (io), 22 I/O23 C7 (io), 23 TMS (in), 24 TCK (in), 25 GND (power), 26 GND (power), 27 GND (power), 28 I/O24 D7 (io), 29 I/O25 D6 (io), 30 I/O26 D5 (io), 31 I/O27 D4 (io), 32 I/O28 D3 (io), 33 I/O29 D2 (io), 34 I/O30 D1 (io), 35 I/O31 D0 (io), 36 I2 (in), 37 VCC (power), 38 GND (power), 39 GND (power), 40 VCC (power), 41 I/O32 E0 (io), 42 I/O33 E1 (io), 43 I/O34 E2 (io), 44 I/O35 E3 (io), 45 I/O36 E4 (io), 46 I/O37 E5 (io), 47 I/O38 E6 (io), 48 I/O39 E7 (io), 49 GND (power), 50 GND (power), 51 GND (power), 52 ENABLE (in), 53 I/O40 F7 (io), 54 I/O41 F6 (io), 55 I/O42 F5 (io), 56 I/O43 F4 (io), 57 I/O44 F3 (io), 58 I/O45 F2 (io), 59 I/O46 F1 (io), 60 I/O47 F0 (io), 61 I3/CLK2 (in), 62 VCC (power), 63 GND (power), 64 I4/CLK3 (in), 65 I/O48 G0 (io), 66 I/O49 G1 (io), 67 I/O50 G2 (io), 68 I/O51 G3 (io), 69 I/O52 G4 (io), 70 I/O53 G5 (io), 71 I/O54 G6 (io), 72 I/O55 G7 (io), 73 TRST (in), 74 TDO (out), 75 GND (power), 76 GND (power), 77 GND (power), 78 I/O56 H7 (io), 79 I/O57 H6 (io), 80 I/O58 H5 (io), 81 I/O59 H4 (io), 82 I/O60 H3 (io), 83 I/O61 H2 (io), 84 I/O62 H1 (io), 85 I/O63 H0 (io), 86 I5 (in), 87 VCC (power), 88 GND (power), 89 GND (power), 90 VCC (power), 91 I/O0 A0 (io), 92 I/O1 A1 (io), 93 I/O2 A2 (io), 94 I/O3 A3 (io), 95 I/O4 A4 (io), 96 I/O5 A5 (io), 97 I/O6 A6 (io), 98 I/O7 A7 (io), 99 GND (power), 100 GND (power)
text: Block H; Block G; Block F; Block A; Block E; Block B; Block C; Block D

## M4LV-128/64-12YC
designator U?
High-Performance EE CMOS In-System Programmable Logic; Published: 23-Sep-2002; LatestRevisionDate: 13-Apr-2006; LatestRevisionNote: IPC-7351 Footprint Added.; DatasheetVersion: Mar-2000; PackageVersion: pkg_32, Aug-2005; PackageReference: PQFP100; Publisher: Altium Limited; PackageDescription: 100-Pin Quad Flat Pack Rectangular 0.65 mm Pitch; Code_IPC: QFP65P1720X2320-100; ComponentLink1Description: Manufacturer Link; ComponentLink1URL: http://www.latticesemi.com/products/mature/index.cfm; ComponentLink2Description: Datasheet; ComponentLink2URL: http://www.latticesemi.com/lit/docs/datasheets/cpld/mach4.pdf
footprint PQFP100_N (QFP, 100-Leads, Body 20x14mm, Pitch 0.65mm, IPC Medium Density)
footprint PQFP100_L (QFP, 100-Leads, Body 20x14mm, Pitch 0.65mm, IPC High Density)
footprint PQFP100_M (QFP, 100-Leads, Body 20x14mm, Pitch 0.65mm, IPC Low Density)
3D model PQFP-100 (100-Pin Quad Flat Pack Rectangular 0.65 mm Pitch)
pins: 1 GND (power), 2 GND (power), 3 TDI (in), 4 I5 (in), 5 I/O8 B7 (io), 6 I/O9 B6 (io), 7 I/O10 B5 (io), 8 I/O11 B4 (io), 9 I/O12 B3 (io), 10 I/O13 B2 (io), 11 I/O14 B1 (io), 12 I/O15 B0 (io), 13 I0/CLK0 (in), 14 VCC (power), 15 VCC (power), 16 GND (power), 17 GND (power), 18 I1/CLK1 (in), 19 I/O16 C0 (io), 20 I/O17 C1 (io), 21 I/O18 C2 (io), 22 I/O19 C3 (io), 23 I/O20 C4 (io), 24 I/O21 C5 (io), 25 I/O22 C6 (io), 26 I/O23 C7 (io), 27 TMS (in), 28 TCK (in), 29 GND (power), 30 GND (power), 31 I/O24 D7 (io), 32 I/O25 D6 (io), 33 I/O26 D5 (io), 34 I/O27 D4 (io), 35 I/O28 D3 (io), 36 I/O29 D2 (io), 37 I/O30 D1 (io), 38 I/O31 D0 (io), 39 VCC (power), 40 GND (power), 41 GND (power), 42 VCC (power), 43 I/O32 E0 (io), 44 I/O33 E1 (io), 45 I/O34 E2 (io), 46 I/O35 E3 (io), 47 I/O36 E4 (io), 48 I/O37 E5 (io), 49 I/O38 E6 (io), 50 I/O39 E7 (io), 51 GND (power), 52 GND (power), 53 ENABLE (in), 54 I2 (in), 55 I/O40 F7 (io), 56 I/O41 F6 (io), 57 I/O42 F5 (io), 58 I/O43 F4 (io), 59 I/O44 F3 (io), 60 I/O45 F2 (io), 61 I/O46 F1 (io), 62 I/O47 F0 (io), 63 I3/CLK2 (in), 64 VCC (power), 65 VCC (power), 66 GND (power), 67 GND (power), 68 I4/CLK3 (in), 69 I/O48 G0 (io), 70 I/O49 G1 (io), 71 I/O50 G2 (io), 72 I/O51 G3 (io), 73 I/O52 G4 (io), 74 I/O53 G5 (io), 75 I/O54 G6 (io), 76 I/O55 G7 (io), 77 TRST (in), 78 TDO (out), 79 GND (power), 80 GND (power), 81 I/O56 H7 (io), 82 I/O57 H6 (io), 83 I/O58 H5 (io), 84 I/O59 H4 (io), 85 I/O60 H3 (io), 86 I/O61 H2 (io), 87 I/O62 H1 (io), 88 I/O63 H0 (io), 89 VCC (power), 90 GND (power), 91 GND (power), 92 VCC (power), 93 I/O0 A0 (io), 94 I/O1 A1 (io), 95 I/O2 A2 (io), 96 I/O3 A3 (io), 97 I/O4 A4 (io), 98 I/O5 A5 (io), 99 I/O6 A6 (io), 100 I/O7 A7 (io)
text: Block H; Block G; Block F; Block A; Block E; Block B; Block C; Block D

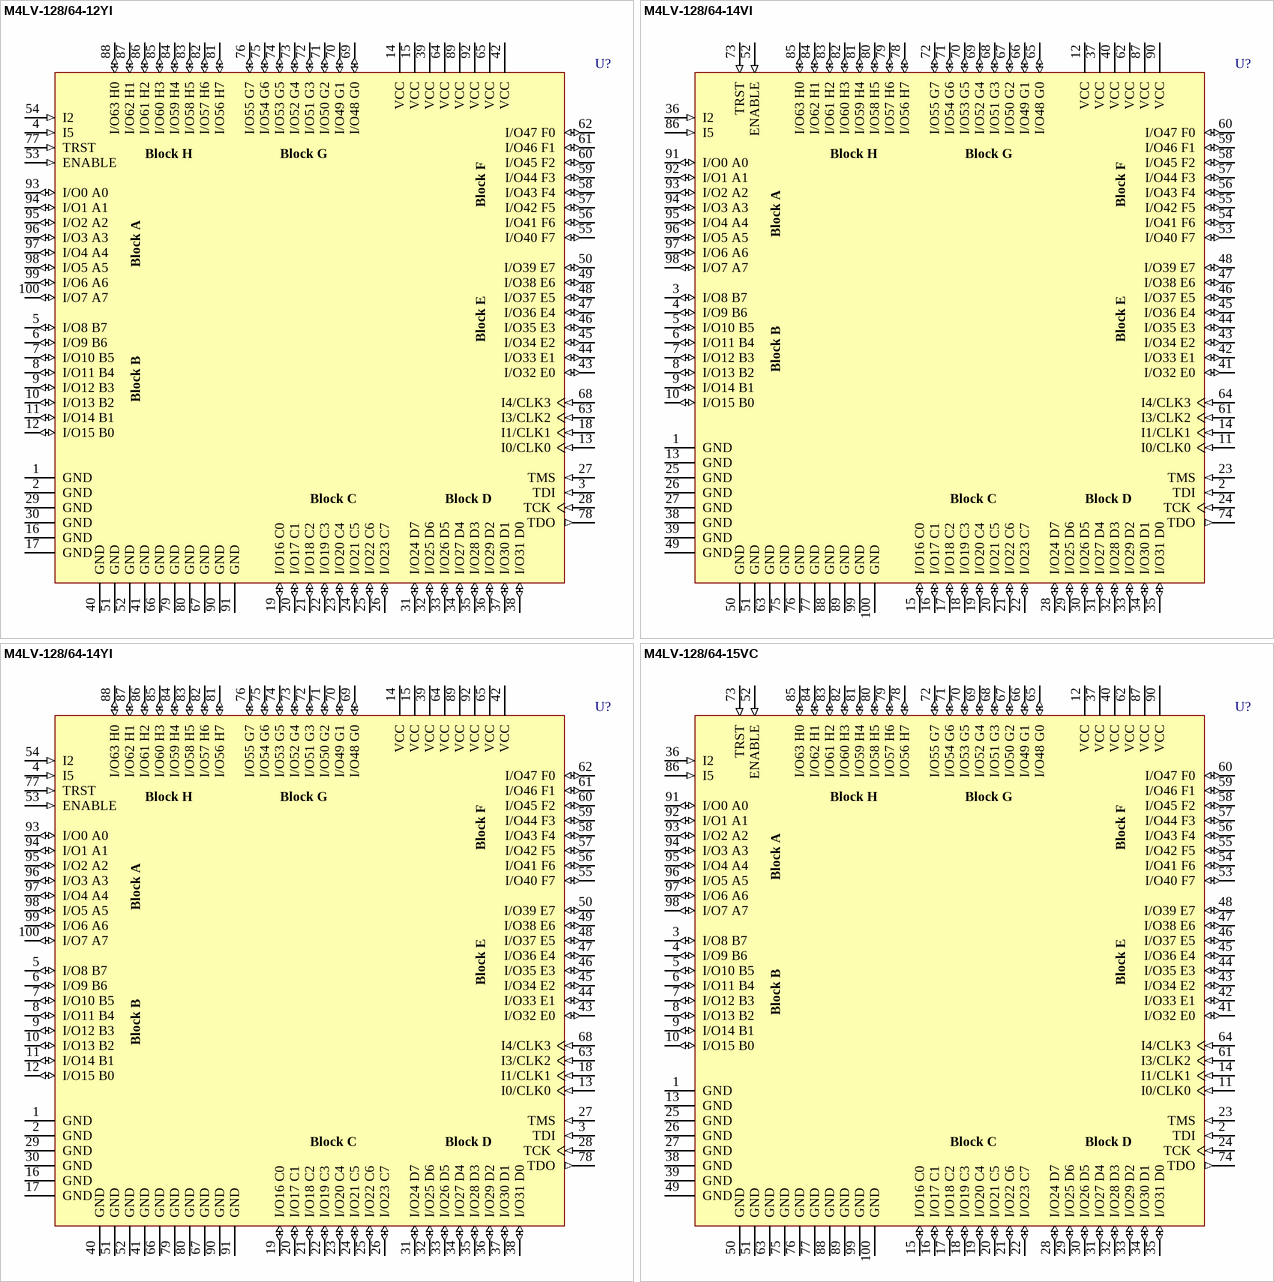
[diagram p139: symbols M4LV-128/64-12YI to M4LV-128/64-15VC]

## M4LV-128/64-12YI
designator U?
High-Performance EE CMOS In-System Programmable Logic; Published: 23-Sep-2002; LatestRevisionDate: 13-Apr-2006; LatestRevisionNote: IPC-7351 Footprint Added.; DatasheetVersion: Mar-2000; PackageVersion: pkg_32, Aug-2005; PackageReference: PQFP100; Publisher: Altium Limited; PackageDescription: 100-Pin Quad Flat Pack Rectangular 0.65 mm Pitch; Code_IPC: QFP65P1720X2320-100; ComponentLink1Description: Manufacturer Link; ComponentLink1URL: http://www.latticesemi.com/products/mature/index.cfm; ComponentLink2Description: Datasheet; ComponentLink2URL: http://www.latticesemi.com/lit/docs/datasheets/cpld/mach4.pdf
footprint PQFP100_N (QFP, 100-Leads, Body 20x14mm, Pitch 0.65mm, IPC Medium Density)
footprint PQFP100_L (QFP, 100-Leads, Body 20x14mm, Pitch 0.65mm, IPC High Density)
footprint PQFP100_M (QFP, 100-Leads, Body 20x14mm, Pitch 0.65mm, IPC Low Density)
3D model PQFP-100 (100-Pin Quad Flat Pack Rectangular 0.65 mm Pitch)
pins: 1 GND (power), 2 GND (power), 3 TDI (in), 4 I5 (in), 5 I/O8 B7 (io), 6 I/O9 B6 (io), 7 I/O10 B5 (io), 8 I/O11 B4 (io), 9 I/O12 B3 (io), 10 I/O13 B2 (io), 11 I/O14 B1 (io), 12 I/O15 B0 (io), 13 I0/CLK0 (in), 14 VCC (power), 15 VCC (power), 16 GND (power), 17 GND (power), 18 I1/CLK1 (in), 19 I/O16 C0 (io), 20 I/O17 C1 (io), 21 I/O18 C2 (io), 22 I/O19 C3 (io), 23 I/O20 C4 (io), 24 I/O21 C5 (io), 25 I/O22 C6 (io), 26 I/O23 C7 (io), 27 TMS (in), 28 TCK (in), 29 GND (power), 30 GND (power), 31 I/O24 D7 (io), 32 I/O25 D6 (io), 33 I/O26 D5 (io), 34 I/O27 D4 (io), 35 I/O28 D3 (io), 36 I/O29 D2 (io), 37 I/O30 D1 (io), 38 I/O31 D0 (io), 39 VCC (power), 40 GND (power), 41 GND (power), 42 VCC (power), 43 I/O32 E0 (io), 44 I/O33 E1 (io), 45 I/O34 E2 (io), 46 I/O35 E3 (io), 47 I/O36 E4 (io), 48 I/O37 E5 (io), 49 I/O38 E6 (io), 50 I/O39 E7 (io), 51 GND (power), 52 GND (power), 53 ENABLE (in), 54 I2 (in), 55 I/O40 F7 (io), 56 I/O41 F6 (io), 57 I/O42 F5 (io), 58 I/O43 F4 (io), 59 I/O44 F3 (io), 60 I/O45 F2 (io), 61 I/O46 F1 (io), 62 I/O47 F0 (io), 63 I3/CLK2 (in), 64 VCC (power), 65 VCC (power), 66 GND (power), 67 GND (power), 68 I4/CLK3 (in), 69 I/O48 G0 (io), 70 I/O49 G1 (io), 71 I/O50 G2 (io), 72 I/O51 G3 (io), 73 I/O52 G4 (io), 74 I/O53 G5 (io), 75 I/O54 G6 (io), 76 I/O55 G7 (io), 77 TRST (in), 78 TDO (out), 79 GND (power), 80 GND (power), 81 I/O56 H7 (io), 82 I/O57 H6 (io), 83 I/O58 H5 (io), 84 I/O59 H4 (io), 85 I/O60 H3 (io), 86 I/O61 H2 (io), 87 I/O62 H1 (io), 88 I/O63 H0 (io), 89 VCC (power), 90 GND (power), 91 GND (power), 92 VCC (power), 93 I/O0 A0 (io), 94 I/O1 A1 (io), 95 I/O2 A2 (io), 96 I/O3 A3 (io), 97 I/O4 A4 (io), 98 I/O5 A5 (io), 99 I/O6 A6 (io), 100 I/O7 A7 (io)
text: Block H; Block G; Block F; Block A; Block E; Block B; Block C; Block D

## M4LV-128/64-14VI
designator U?
High-Performance EE CMOS In-System Programmable Logic; Published: 23-Sep-2002; LatestRevisionDate: 13-Apr-2006; LatestRevisionNote: IPC-7351 Footprint Added.; DatasheetVersion: Mar-2000; PackageVersion: pkg_32, Aug-2005; PackageReference: TQFP100; Publisher: Altium Limited; PackageDescription: 100-Pin Thin Quad Flat Pack (TQFP100); Code_JEDEC: MS-026-BED; ComponentLink1Description: Manufacturer Link; ComponentLink1URL: http://www.latticesemi.com/products/mature/index.cfm; ComponentLink2Description: Datasheet; ComponentLink2URL: http://www.latticesemi.com/lit/docs/datasheets/cpld/mach4.pdf
footprint TQFP100_N (Thin QFP, 100-Leads, Body 14x14mm, Pitch 0.5mm, IPC Medium Density)
footprint TQFP100_L (Thin QFP, 100-Leads, Body 14x14mm, Pitch 0.5mm, IPC High Density)
footprint TQFP100_M (Thin QFP, 100-Leads, Body 14x14mm, Pitch 0.5mm, IPC Low Density)
3D model M4LV-TQFP100 (100-Pin Thin Quad Flat Pack (TQFP100))
pins: 1 GND (power), 2 TDI (in), 3 I/O8 B7 (io), 4 I/O9 B6 (io), 5 I/O10 B5 (io), 6 I/O11 B4 (io), 7 I/O12 B3 (io), 8 I/O13 B2 (io), 9 I/O14 B1 (io), 10 I/O15 B0 (io), 11 I0/CLK0 (in), 12 VCC (power), 13 GND (power), 14 I1/CLK1 (in), 15 I/O16 C0 (io), 16 I/O17 C1 (io), 17 I/O18 C2 (io), 18 I/O19 C3 (io), 19 I/O20 C4 (io), 20 I/O21 C5 (io), 21 I/O22 C6 (io), 22 I/O23 C7 (io), 23 TMS (in), 24 TCK (in), 25 GND (power), 26 GND (power), 27 GND (power), 28 I/O24 D7 (io), 29 I/O25 D6 (io), 30 I/O26 D5 (io), 31 I/O27 D4 (io), 32 I/O28 D3 (io), 33 I/O29 D2 (io), 34 I/O30 D1 (io), 35 I/O31 D0 (io), 36 I2 (in), 37 VCC (power), 38 GND (power), 39 GND (power), 40 VCC (power), 41 I/O32 E0 (io), 42 I/O33 E1 (io), 43 I/O34 E2 (io), 44 I/O35 E3 (io), 45 I/O36 E4 (io), 46 I/O37 E5 (io), 47 I/O38 E6 (io), 48 I/O39 E7 (io), 49 GND (power), 50 GND (power), 51 GND (power), 52 ENABLE (in), 53 I/O40 F7 (io), 54 I/O41 F6 (io), 55 I/O42 F5 (io), 56 I/O43 F4 (io), 57 I/O44 F3 (io), 58 I/O45 F2 (io), 59 I/O46 F1 (io), 60 I/O47 F0 (io), 61 I3/CLK2 (in), 62 VCC (power), 63 GND (power), 64 I4/CLK3 (in), 65 I/O48 G0 (io), 66 I/O49 G1 (io), 67 I/O50 G2 (io), 68 I/O51 G3 (io), 69 I/O52 G4 (io), 70 I/O53 G5 (io), 71 I/O54 G6 (io), 72 I/O55 G7 (io), 73 TRST (in), 74 TDO (out), 75 GND (power), 76 GND (power), 77 GND (power), 78 I/O56 H7 (io), 79 I/O57 H6 (io), 80 I/O58 H5 (io), 81 I/O59 H4 (io), 82 I/O60 H3 (io), 83 I/O61 H2 (io), 84 I/O62 H1 (io), 85 I/O63 H0 (io), 86 I5 (in), 87 VCC (power), 88 GND (power), 89 GND (power), 90 VCC (power), 91 I/O0 A0 (io), 92 I/O1 A1 (io), 93 I/O2 A2 (io), 94 I/O3 A3 (io), 95 I/O4 A4 (io), 96 I/O5 A5 (io), 97 I/O6 A6 (io), 98 I/O7 A7 (io), 99 GND (power), 100 GND (power)
text: Block H; Block G; Block F; Block A; Block E; Block B; Block C; Block D

## M4LV-128/64-14YI
designator U?
High-Performance EE CMOS In-System Programmable Logic; Published: 23-Sep-2002; LatestRevisionDate: 13-Apr-2006; LatestRevisionNote: IPC-7351 Footprint Added.; DatasheetVersion: Mar-2000; PackageVersion: pkg_32, Aug-2005; PackageReference: PQFP100; Publisher: Altium Limited; PackageDescription: 100-Pin Quad Flat Pack Rectangular 0.65 mm Pitch; Code_IPC: QFP65P1720X2320-100; ComponentLink1Description: Manufacturer Link; ComponentLink1URL: http://www.latticesemi.com/products/mature/index.cfm; ComponentLink2Description: Datasheet; ComponentLink2URL: http://www.latticesemi.com/lit/docs/datasheets/cpld/mach4.pdf
footprint PQFP100_N (QFP, 100-Leads, Body 20x14mm, Pitch 0.65mm, IPC Medium Density)
footprint PQFP100_L (QFP, 100-Leads, Body 20x14mm, Pitch 0.65mm, IPC High Density)
footprint PQFP100_M (QFP, 100-Leads, Body 20x14mm, Pitch 0.65mm, IPC Low Density)
3D model PQFP-100 (100-Pin Quad Flat Pack Rectangular 0.65 mm Pitch)
pins: 1 GND (power), 2 GND (power), 3 TDI (in), 4 I5 (in), 5 I/O8 B7 (io), 6 I/O9 B6 (io), 7 I/O10 B5 (io), 8 I/O11 B4 (io), 9 I/O12 B3 (io), 10 I/O13 B2 (io), 11 I/O14 B1 (io), 12 I/O15 B0 (io), 13 I0/CLK0 (in), 14 VCC (power), 15 VCC (power), 16 GND (power), 17 GND (power), 18 I1/CLK1 (in), 19 I/O16 C0 (io), 20 I/O17 C1 (io), 21 I/O18 C2 (io), 22 I/O19 C3 (io), 23 I/O20 C4 (io), 24 I/O21 C5 (io), 25 I/O22 C6 (io), 26 I/O23 C7 (io), 27 TMS (in), 28 TCK (in), 29 GND (power), 30 GND (power), 31 I/O24 D7 (io), 32 I/O25 D6 (io), 33 I/O26 D5 (io), 34 I/O27 D4 (io), 35 I/O28 D3 (io), 36 I/O29 D2 (io), 37 I/O30 D1 (io), 38 I/O31 D0 (io), 39 VCC (power), 40 GND (power), 41 GND (power), 42 VCC (power), 43 I/O32 E0 (io), 44 I/O33 E1 (io), 45 I/O34 E2 (io), 46 I/O35 E3 (io), 47 I/O36 E4 (io), 48 I/O37 E5 (io), 49 I/O38 E6 (io), 50 I/O39 E7 (io), 51 GND (power), 52 GND (power), 53 ENABLE (in), 54 I2 (in), 55 I/O40 F7 (io), 56 I/O41 F6 (io), 57 I/O42 F5 (io), 58 I/O43 F4 (io), 59 I/O44 F3 (io), 60 I/O45 F2 (io), 61 I/O46 F1 (io), 62 I/O47 F0 (io), 63 I3/CLK2 (in), 64 VCC (power), 65 VCC (power), 66 GND (power), 67 GND (power), 68 I4/CLK3 (in), 69 I/O48 G0 (io), 70 I/O49 G1 (io), 71 I/O50 G2 (io), 72 I/O51 G3 (io), 73 I/O52 G4 (io), 74 I/O53 G5 (io), 75 I/O54 G6 (io), 76 I/O55 G7 (io), 77 TRST (in), 78 TDO (out), 79 GND (power), 80 GND (power), 81 I/O56 H7 (io), 82 I/O57 H6 (io), 83 I/O58 H5 (io), 84 I/O59 H4 (io), 85 I/O60 H3 (io), 86 I/O61 H2 (io), 87 I/O62 H1 (io), 88 I/O63 H0 (io), 89 VCC (power), 90 GND (power), 91 GND (power), 92 VCC (power), 93 I/O0 A0 (io), 94 I/O1 A1 (io), 95 I/O2 A2 (io), 96 I/O3 A3 (io), 97 I/O4 A4 (io), 98 I/O5 A5 (io), 99 I/O6 A6 (io), 100 I/O7 A7 (io)
text: Block H; Block G; Block F; Block A; Block E; Block B; Block C; Block D

## M4LV-128/64-15VC
designator U?
High-Performance EE CMOS In-System Programmable Logic; Published: 23-Sep-2002; LatestRevisionDate: 13-Apr-2006; LatestRevisionNote: IPC-7351 Footprint Added.; DatasheetVersion: Mar-2000; PackageVersion: pkg_32, Aug-2005; PackageReference: TQFP100; Publisher: Altium Limited; PackageDescription: 100-Pin Thin Quad Flat Pack (TQFP100); Code_JEDEC: MS-026-BED; ComponentLink1Description: Manufacturer Link; ComponentLink1URL: http://www.latticesemi.com/products/mature/index.cfm; ComponentLink2Description: Datasheet; ComponentLink2URL: http://www.latticesemi.com/lit/docs/datasheets/cpld/mach4.pdf
footprint TQFP100_N (Thin QFP, 100-Leads, Body 14x14mm, Pitch 0.5mm, IPC Medium Density)
footprint TQFP100_L (Thin QFP, 100-Leads, Body 14x14mm, Pitch 0.5mm, IPC High Density)
footprint TQFP100_M (Thin QFP, 100-Leads, Body 14x14mm, Pitch 0.5mm, IPC Low Density)
3D model M4LV-TQFP100 (100-Pin Thin Quad Flat Pack (TQFP100))
pins: 1 GND (power), 2 TDI (in), 3 I/O8 B7 (io), 4 I/O9 B6 (io), 5 I/O10 B5 (io), 6 I/O11 B4 (io), 7 I/O12 B3 (io), 8 I/O13 B2 (io), 9 I/O14 B1 (io), 10 I/O15 B0 (io), 11 I0/CLK0 (in), 12 VCC (power), 13 GND (power), 14 I1/CLK1 (in), 15 I/O16 C0 (io), 16 I/O17 C1 (io), 17 I/O18 C2 (io), 18 I/O19 C3 (io), 19 I/O20 C4 (io), 20 I/O21 C5 (io), 21 I/O22 C6 (io), 22 I/O23 C7 (io), 23 TMS (in), 24 TCK (in), 25 GND (power), 26 GND (power), 27 GND (power), 28 I/O24 D7 (io), 29 I/O25 D6 (io), 30 I/O26 D5 (io), 31 I/O27 D4 (io), 32 I/O28 D3 (io), 33 I/O29 D2 (io), 34 I/O30 D1 (io), 35 I/O31 D0 (io), 36 I2 (in), 37 VCC (power), 38 GND (power), 39 GND (power), 40 VCC (power), 41 I/O32 E0 (io), 42 I/O33 E1 (io), 43 I/O34 E2 (io), 44 I/O35 E3 (io), 45 I/O36 E4 (io), 46 I/O37 E5 (io), 47 I/O38 E6 (io), 48 I/O39 E7 (io), 49 GND (power), 50 GND (power), 51 GND (power), 52 ENABLE (in), 53 I/O40 F7 (io), 54 I/O41 F6 (io), 55 I/O42 F5 (io), 56 I/O43 F4 (io), 57 I/O44 F3 (io), 58 I/O45 F2 (io), 59 I/O46 F1 (io), 60 I/O47 F0 (io), 61 I3/CLK2 (in), 62 VCC (power), 63 GND (power), 64 I4/CLK3 (in), 65 I/O48 G0 (io), 66 I/O49 G1 (io), 67 I/O50 G2 (io), 68 I/O51 G3 (io), 69 I/O52 G4 (io), 70 I/O53 G5 (io), 71 I/O54 G6 (io), 72 I/O55 G7 (io), 73 TRST (in), 74 TDO (out), 75 GND (power), 76 GND (power), 77 GND (power), 78 I/O56 H7 (io), 79 I/O57 H6 (io), 80 I/O58 H5 (io), 81 I/O59 H4 (io), 82 I/O60 H3 (io), 83 I/O61 H2 (io), 84 I/O62 H1 (io), 85 I/O63 H0 (io), 86 I5 (in), 87 VCC (power), 88 GND (power), 89 GND (power), 90 VCC (power), 91 I/O0 A0 (io), 92 I/O1 A1 (io), 93 I/O2 A2 (io), 94 I/O3 A3 (io), 95 I/O4 A4 (io), 96 I/O5 A5 (io), 97 I/O6 A6 (io), 98 I/O7 A7 (io), 99 GND (power), 100 GND (power)
text: Block H; Block G; Block F; Block A; Block E; Block B; Block C; Block D

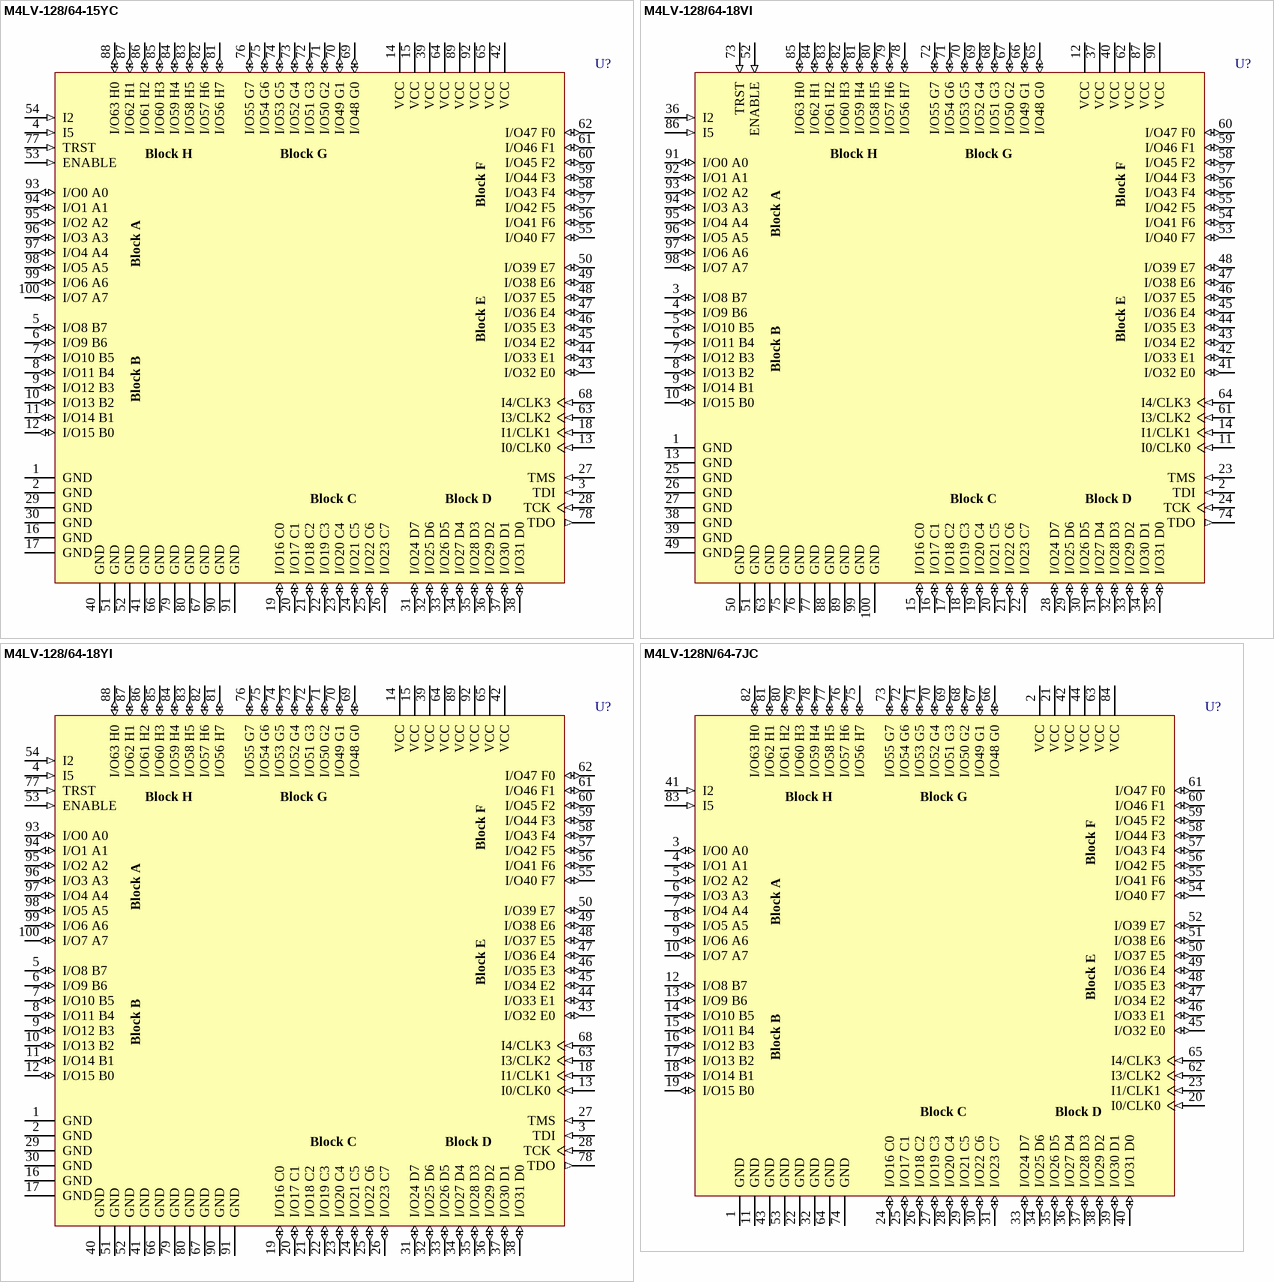
[diagram p140: symbols M4LV-128/64-15YC to M4LV-128N/64-7JC]

## M4LV-128/64-15YC
designator U?
High-Performance EE CMOS In-System Programmable Logic; Published: 23-Sep-2002; LatestRevisionDate: 13-Apr-2006; LatestRevisionNote: IPC-7351 Footprint Added.; DatasheetVersion: Mar-2000; PackageVersion: pkg_32, Aug-2005; PackageReference: PQFP100; Publisher: Altium Limited; PackageDescription: 100-Pin Quad Flat Pack Rectangular 0.65 mm Pitch; Code_IPC: QFP65P1720X2320-100; ComponentLink1Description: Manufacturer Link; ComponentLink1URL: http://www.latticesemi.com/products/mature/index.cfm; ComponentLink2Description: Datasheet; ComponentLink2URL: http://www.latticesemi.com/lit/docs/datasheets/cpld/mach4.pdf
footprint PQFP100_N (QFP, 100-Leads, Body 20x14mm, Pitch 0.65mm, IPC Medium Density)
footprint PQFP100_L (QFP, 100-Leads, Body 20x14mm, Pitch 0.65mm, IPC High Density)
footprint PQFP100_M (QFP, 100-Leads, Body 20x14mm, Pitch 0.65mm, IPC Low Density)
3D model PQFP-100 (100-Pin Quad Flat Pack Rectangular 0.65 mm Pitch)
pins: 1 GND (power), 2 GND (power), 3 TDI (in), 4 I5 (in), 5 I/O8 B7 (io), 6 I/O9 B6 (io), 7 I/O10 B5 (io), 8 I/O11 B4 (io), 9 I/O12 B3 (io), 10 I/O13 B2 (io), 11 I/O14 B1 (io), 12 I/O15 B0 (io), 13 I0/CLK0 (in), 14 VCC (power), 15 VCC (power), 16 GND (power), 17 GND (power), 18 I1/CLK1 (in), 19 I/O16 C0 (io), 20 I/O17 C1 (io), 21 I/O18 C2 (io), 22 I/O19 C3 (io), 23 I/O20 C4 (io), 24 I/O21 C5 (io), 25 I/O22 C6 (io), 26 I/O23 C7 (io), 27 TMS (in), 28 TCK (in), 29 GND (power), 30 GND (power), 31 I/O24 D7 (io), 32 I/O25 D6 (io), 33 I/O26 D5 (io), 34 I/O27 D4 (io), 35 I/O28 D3 (io), 36 I/O29 D2 (io), 37 I/O30 D1 (io), 38 I/O31 D0 (io), 39 VCC (power), 40 GND (power), 41 GND (power), 42 VCC (power), 43 I/O32 E0 (io), 44 I/O33 E1 (io), 45 I/O34 E2 (io), 46 I/O35 E3 (io), 47 I/O36 E4 (io), 48 I/O37 E5 (io), 49 I/O38 E6 (io), 50 I/O39 E7 (io), 51 GND (power), 52 GND (power), 53 ENABLE (in), 54 I2 (in), 55 I/O40 F7 (io), 56 I/O41 F6 (io), 57 I/O42 F5 (io), 58 I/O43 F4 (io), 59 I/O44 F3 (io), 60 I/O45 F2 (io), 61 I/O46 F1 (io), 62 I/O47 F0 (io), 63 I3/CLK2 (in), 64 VCC (power), 65 VCC (power), 66 GND (power), 67 GND (power), 68 I4/CLK3 (in), 69 I/O48 G0 (io), 70 I/O49 G1 (io), 71 I/O50 G2 (io), 72 I/O51 G3 (io), 73 I/O52 G4 (io), 74 I/O53 G5 (io), 75 I/O54 G6 (io), 76 I/O55 G7 (io), 77 TRST (in), 78 TDO (out), 79 GND (power), 80 GND (power), 81 I/O56 H7 (io), 82 I/O57 H6 (io), 83 I/O58 H5 (io), 84 I/O59 H4 (io), 85 I/O60 H3 (io), 86 I/O61 H2 (io), 87 I/O62 H1 (io), 88 I/O63 H0 (io), 89 VCC (power), 90 GND (power), 91 GND (power), 92 VCC (power), 93 I/O0 A0 (io), 94 I/O1 A1 (io), 95 I/O2 A2 (io), 96 I/O3 A3 (io), 97 I/O4 A4 (io), 98 I/O5 A5 (io), 99 I/O6 A6 (io), 100 I/O7 A7 (io)
text: Block H; Block G; Block F; Block A; Block E; Block B; Block C; Block D

## M4LV-128/64-18VI
designator U?
High-Performance EE CMOS In-System Programmable Logic; Published: 23-Sep-2002; LatestRevisionDate: 13-Apr-2006; LatestRevisionNote: IPC-7351 Footprint Added.; DatasheetVersion: Mar-2000; PackageVersion: pkg_32, Aug-2005; PackageReference: TQFP100; Publisher: Altium Limited; PackageDescription: 100-Pin Thin Quad Flat Pack (TQFP100); Code_JEDEC: MS-026-BED; ComponentLink1Description: Manufacturer Link; ComponentLink1URL: http://www.latticesemi.com/products/mature/index.cfm; ComponentLink2Description: Datasheet; ComponentLink2URL: http://www.latticesemi.com/lit/docs/datasheets/cpld/mach4.pdf
footprint TQFP100_N (Thin QFP, 100-Leads, Body 14x14mm, Pitch 0.5mm, IPC Medium Density)
footprint TQFP100_L (Thin QFP, 100-Leads, Body 14x14mm, Pitch 0.5mm, IPC High Density)
footprint TQFP100_M (Thin QFP, 100-Leads, Body 14x14mm, Pitch 0.5mm, IPC Low Density)
3D model M4LV-TQFP100 (100-Pin Thin Quad Flat Pack (TQFP100))
pins: 1 GND (power), 2 TDI (in), 3 I/O8 B7 (io), 4 I/O9 B6 (io), 5 I/O10 B5 (io), 6 I/O11 B4 (io), 7 I/O12 B3 (io), 8 I/O13 B2 (io), 9 I/O14 B1 (io), 10 I/O15 B0 (io), 11 I0/CLK0 (in), 12 VCC (power), 13 GND (power), 14 I1/CLK1 (in), 15 I/O16 C0 (io), 16 I/O17 C1 (io), 17 I/O18 C2 (io), 18 I/O19 C3 (io), 19 I/O20 C4 (io), 20 I/O21 C5 (io), 21 I/O22 C6 (io), 22 I/O23 C7 (io), 23 TMS (in), 24 TCK (in), 25 GND (power), 26 GND (power), 27 GND (power), 28 I/O24 D7 (io), 29 I/O25 D6 (io), 30 I/O26 D5 (io), 31 I/O27 D4 (io), 32 I/O28 D3 (io), 33 I/O29 D2 (io), 34 I/O30 D1 (io), 35 I/O31 D0 (io), 36 I2 (in), 37 VCC (power), 38 GND (power), 39 GND (power), 40 VCC (power), 41 I/O32 E0 (io), 42 I/O33 E1 (io), 43 I/O34 E2 (io), 44 I/O35 E3 (io), 45 I/O36 E4 (io), 46 I/O37 E5 (io), 47 I/O38 E6 (io), 48 I/O39 E7 (io), 49 GND (power), 50 GND (power), 51 GND (power), 52 ENABLE (in), 53 I/O40 F7 (io), 54 I/O41 F6 (io), 55 I/O42 F5 (io), 56 I/O43 F4 (io), 57 I/O44 F3 (io), 58 I/O45 F2 (io), 59 I/O46 F1 (io), 60 I/O47 F0 (io), 61 I3/CLK2 (in), 62 VCC (power), 63 GND (power), 64 I4/CLK3 (in), 65 I/O48 G0 (io), 66 I/O49 G1 (io), 67 I/O50 G2 (io), 68 I/O51 G3 (io), 69 I/O52 G4 (io), 70 I/O53 G5 (io), 71 I/O54 G6 (io), 72 I/O55 G7 (io), 73 TRST (in), 74 TDO (out), 75 GND (power), 76 GND (power), 77 GND (power), 78 I/O56 H7 (io), 79 I/O57 H6 (io), 80 I/O58 H5 (io), 81 I/O59 H4 (io), 82 I/O60 H3 (io), 83 I/O61 H2 (io), 84 I/O62 H1 (io), 85 I/O63 H0 (io), 86 I5 (in), 87 VCC (power), 88 GND (power), 89 GND (power), 90 VCC (power), 91 I/O0 A0 (io), 92 I/O1 A1 (io), 93 I/O2 A2 (io), 94 I/O3 A3 (io), 95 I/O4 A4 (io), 96 I/O5 A5 (io), 97 I/O6 A6 (io), 98 I/O7 A7 (io), 99 GND (power), 100 GND (power)
text: Block H; Block G; Block F; Block A; Block E; Block B; Block C; Block D

## M4LV-128/64-18YI
designator U?
High-Performance EE CMOS In-System Programmable Logic; Published: 23-Sep-2002; LatestRevisionDate: 13-Apr-2006; LatestRevisionNote: IPC-7351 Footprint Added.; DatasheetVersion: Mar-2000; PackageVersion: pkg_32, Aug-2005; PackageReference: PQFP100; Publisher: Altium Limited; PackageDescription: 100-Pin Quad Flat Pack Rectangular 0.65 mm Pitch; Code_IPC: QFP65P1720X2320-100; ComponentLink1Description: Manufacturer Link; ComponentLink1URL: http://www.latticesemi.com/products/mature/index.cfm; ComponentLink2Description: Datasheet; ComponentLink2URL: http://www.latticesemi.com/lit/docs/datasheets/cpld/mach4.pdf
footprint PQFP100_N (QFP, 100-Leads, Body 20x14mm, Pitch 0.65mm, IPC Medium Density)
footprint PQFP100_L (QFP, 100-Leads, Body 20x14mm, Pitch 0.65mm, IPC High Density)
footprint PQFP100_M (QFP, 100-Leads, Body 20x14mm, Pitch 0.65mm, IPC Low Density)
3D model PQFP-100 (100-Pin Quad Flat Pack Rectangular 0.65 mm Pitch)
pins: 1 GND (power), 2 GND (power), 3 TDI (in), 4 I5 (in), 5 I/O8 B7 (io), 6 I/O9 B6 (io), 7 I/O10 B5 (io), 8 I/O11 B4 (io), 9 I/O12 B3 (io), 10 I/O13 B2 (io), 11 I/O14 B1 (io), 12 I/O15 B0 (io), 13 I0/CLK0 (in), 14 VCC (power), 15 VCC (power), 16 GND (power), 17 GND (power), 18 I1/CLK1 (in), 19 I/O16 C0 (io), 20 I/O17 C1 (io), 21 I/O18 C2 (io), 22 I/O19 C3 (io), 23 I/O20 C4 (io), 24 I/O21 C5 (io), 25 I/O22 C6 (io), 26 I/O23 C7 (io), 27 TMS (in), 28 TCK (in), 29 GND (power), 30 GND (power), 31 I/O24 D7 (io), 32 I/O25 D6 (io), 33 I/O26 D5 (io), 34 I/O27 D4 (io), 35 I/O28 D3 (io), 36 I/O29 D2 (io), 37 I/O30 D1 (io), 38 I/O31 D0 (io), 39 VCC (power), 40 GND (power), 41 GND (power), 42 VCC (power), 43 I/O32 E0 (io), 44 I/O33 E1 (io), 45 I/O34 E2 (io), 46 I/O35 E3 (io), 47 I/O36 E4 (io), 48 I/O37 E5 (io), 49 I/O38 E6 (io), 50 I/O39 E7 (io), 51 GND (power), 52 GND (power), 53 ENABLE (in), 54 I2 (in), 55 I/O40 F7 (io), 56 I/O41 F6 (io), 57 I/O42 F5 (io), 58 I/O43 F4 (io), 59 I/O44 F3 (io), 60 I/O45 F2 (io), 61 I/O46 F1 (io), 62 I/O47 F0 (io), 63 I3/CLK2 (in), 64 VCC (power), 65 VCC (power), 66 GND (power), 67 GND (power), 68 I4/CLK3 (in), 69 I/O48 G0 (io), 70 I/O49 G1 (io), 71 I/O50 G2 (io), 72 I/O51 G3 (io), 73 I/O52 G4 (io), 74 I/O53 G5 (io), 75 I/O54 G6 (io), 76 I/O55 G7 (io), 77 TRST (in), 78 TDO (out), 79 GND (power), 80 GND (power), 81 I/O56 H7 (io), 82 I/O57 H6 (io), 83 I/O58 H5 (io), 84 I/O59 H4 (io), 85 I/O60 H3 (io), 86 I/O61 H2 (io), 87 I/O62 H1 (io), 88 I/O63 H0 (io), 89 VCC (power), 90 GND (power), 91 GND (power), 92 VCC (power), 93 I/O0 A0 (io), 94 I/O1 A1 (io), 95 I/O2 A2 (io), 96 I/O3 A3 (io), 97 I/O4 A4 (io), 98 I/O5 A5 (io), 99 I/O6 A6 (io), 100 I/O7 A7 (io)
text: Block H; Block G; Block F; Block A; Block E; Block B; Block C; Block D